# Altium integrated library Hitachi Microprocessor 16-Bit.IntLib: 58 symbols (part 3 of 4)
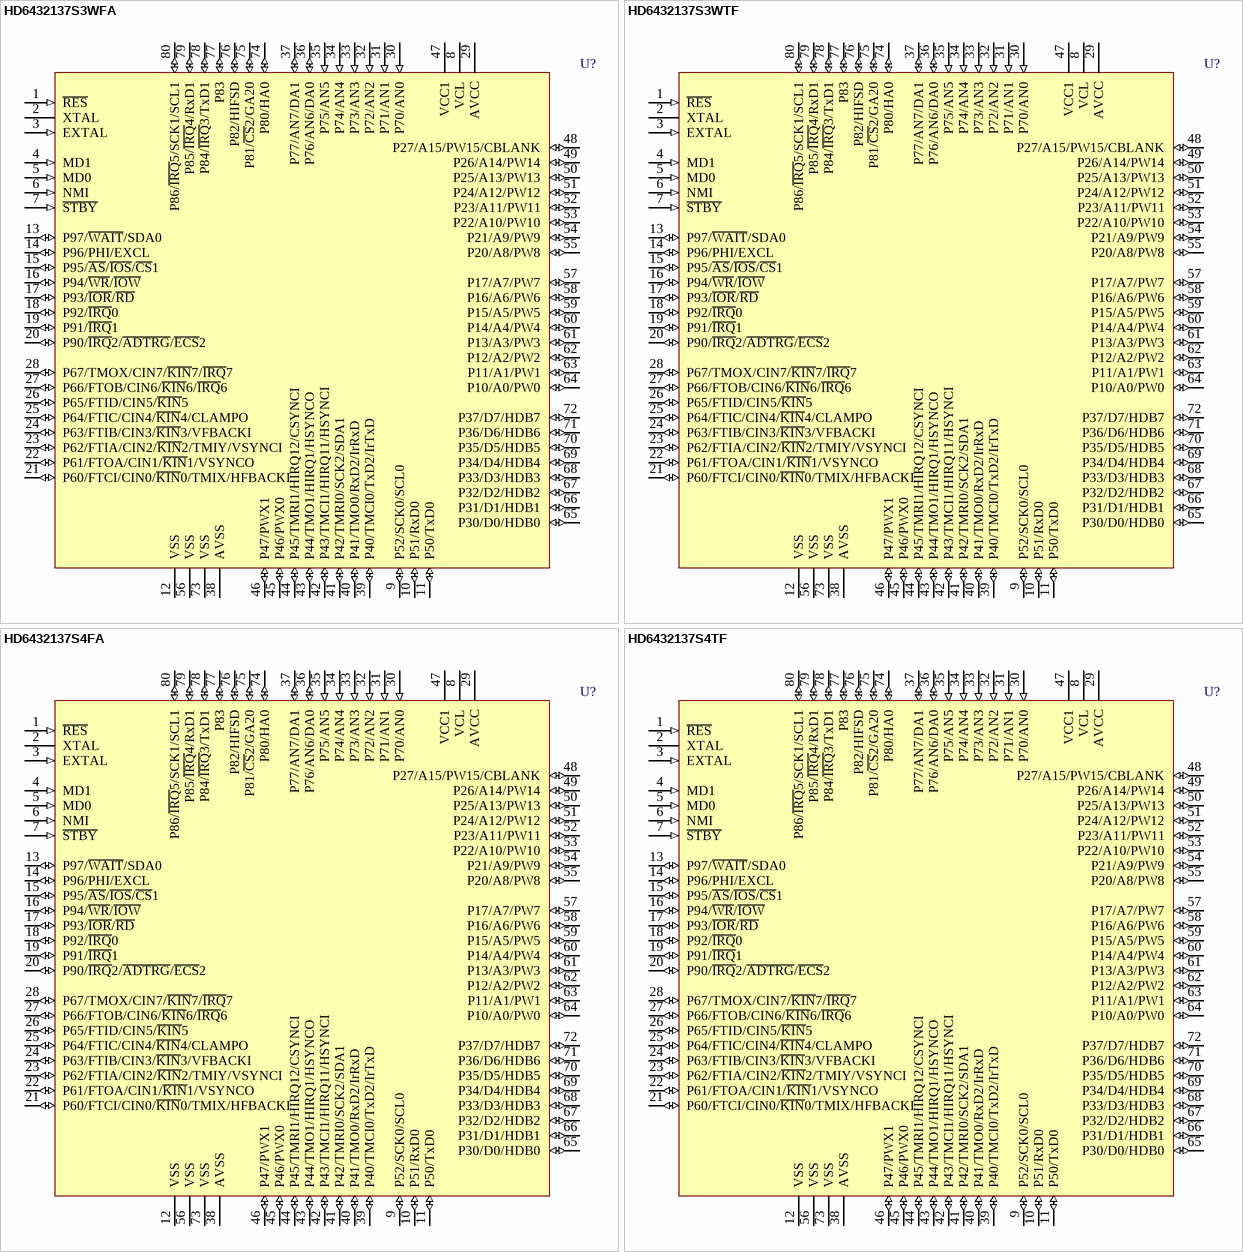
[diagram p16: symbols HD6432137S3WFA to HD6432137S4TF]

## HD6432137S3WFA
designator U?
16-Bit Single-Chip Microcomputer, H8S/2137, Mask ROM, with on-chip IIC Bus Interface (3V Version).; Note: Do not leave the AVCC, and AVSS pins open even if the A/D converter and D/A converter are not used.; Published: 17-Jul-2002; LatestRevisionDate: 13-Apr-2006; LatestRevisionNote: IPC-7351 Footprint Added.; DatasheetVersion: May-2001; PackageVersion: May-2001; PackageReference: FP-80A; Publisher: Altium Limited; PackageDescription: 80-Pin Quad Flat Pack 0.65 mm Pitch; Code_IPC: QFP65P1720X1720-80; ComponentLink1Description: Manufacturer Link; ComponentLink1URL: http://www.renesas.com/eng/; ComponentLink2Description: Datasheet; ComponentLink2URL: http://documentation.renesas.com/eng/products/mpumcu/e602144_h8s2138.pdf
footprint FP-80A_N (QFP, 80-Leads, Body 14 x 14mm, Pitch 0.65mm, IPC Medium Density)
footprint FP-80A_L (QFP, 80-Leads, Body 14 x 14mm, Pitch 0.65mm, IPC High Density)
footprint FP-80A_M (QFP, 80-Leads, Body 14 x 14mm, Pitch 0.65mm, IPC Low Density)
3D model HD6432137SW-FP-80A (80-Pin Quad Flat Pack 0.65 mm Pitch)
pins: 1 ~{RES} (in), 2 XTAL, 3 EXTAL (in), 4 MD1 (in), 5 MD0 (in), 6 NMI (in), 7 ~{STBY} (in), 8 VCL (power), 9 P52/SCK0/SCL0 (io), 10 P51/RxD0 (io), 11 P50/TxD0 (io), 12 VSS (power), 13 P97/~{WAIT}/SDA0 (io), 14 P96/PHI/EXCL (io), 15 P95/~{AS}/~{IOS}/~{CS}1 (io), 16 P94/~{WR}/~{IOW} (io), 17 P93/~{IOR}/~{RD} (io), 18 P92/~{IRQ}0 (io), 19 P91/~{IRQ}1 (io), 20 P90/~{IRQ}2/~{ADTRG}/~{ECS}2 (io), 21 P60/FTCI/CIN0/~{KIN}0/TMIX/HFBACKI (io), 22 P61/FTOA/CIN1/~{KIN}1/VSYNCO (io), 23 P62/FTIA/CIN2/~{KIN}2/TMIY/VSYNCI (io), 24 P63/FTIB/CIN3/~{KIN}3/VFBACKI (io), 25 P64/FTIC/CIN4/~{KIN}4/CLAMPO (io), 26 P65/FTID/CIN5/~{KIN}5 (io), 27 P66/FTOB/CIN6/~{KIN}6/~{IRQ}6 (io), 28 P67/TMOX/CIN7/~{KIN}7/~{IRQ}7 (io), 29 AVCC (power), 30 P70/AN0 (in), 31 P71/AN1 (in), 32 P72/AN2 (in), 33 P73/AN3 (in), 34 P74/AN4 (in), 35 P75/AN5 (in), 36 P76/AN6/DA0 (io), 37 P77/AN7/DA1 (io), 38 AVSS (power), 39 P40/TMCI0/TxD2/IrTxD (io), 40 P41/TMO0/RxD2/IrRxD (io), 41 P42/TMRI0/SCK2/SDA1 (io), 42 P43/TMCI1/HIRQ11/HSYNCI (io), 43 P44/TMO1/HIRQ1/HSYNCO (io), 44 P45/TMRI1/HIRQ12/CSYNCI (io), 45 P46/PWX0 (io), 46 P47/PWX1 (io), 47 VCC1 (power), 48 P27/A15/PW15/CBLANK (io), 49 P26/A14/PW14 (io), 50 P25/A13/PW13 (io), 51 P24/A12/PW12 (io), 52 P23/A11/PW11 (io), 53 P22/A10/PW10 (io), 54 P21/A9/PW9 (io), 55 P20/A8/PW8 (io), 56 VSS (power), 57 P17/A7/PW7 (io), 58 P16/A6/PW6 (io), 59 P15/A5/PW5 (io), 60 P14/A4/PW4 (io), 61 P13/A3/PW3 (io), 62 P12/A2/PW2 (io), 63 P11/A1/PW1 (io), 64 P10/A0/PW0 (io), 65 P30/D0/HDB0 (io), 66 P31/D1/HDB1 (io), 67 P32/D2/HDB2 (io), 68 P33/D3/HDB3 (io), 69 P34/D4/HDB4 (io), 70 P35/D5/HDB5 (io), 71 P36/D6/HDB6 (io), 72 P37/D7/HDB7 (io), 73 VSS (power), 74 P80/HA0 (io), 75 P81/~{CS}2/GA20 (io), 76 P82/HIFSD (io), 77 P83 (io), 78 P84/~{IRQ}3/TxD1 (io), 79 P85/~{IRQ}4/RxD1 (io), 80 P86/~{IRQ}5/SCK1/SCL1 (io)

## HD6432137S3WTF
designator U?
16-Bit Single-Chip Microcomputer, H8S/2137, Mask ROM, with on-chip IIC Bus Interface (3V Version).; Note: Do not leave the AVCC, and AVSS pins open even if the A/D converter and D/A converter are not used.; Published: 17-Jul-2002; LatestRevisionDate: 13-Apr-2006; LatestRevisionNote: IPC-7351 Footprint Added.; DatasheetVersion: May-2001; PackageVersion: May-2001; PackageReference: TFP-80C; Publisher: Altium Limited; PackageDescription: 80-Pin Thin Quad Flat Pack 0.5 mm Pitch; ComponentLink1Description: Manufacturer Link; ComponentLink1URL: http://www.renesas.com/eng/; ComponentLink2Description: Datasheet; ComponentLink2URL: http://documentation.renesas.com/eng/products/mpumcu/e602144_h8s2138.pdf
footprint TFP-80C_N (Thin QFP, 80-Leads, Body 12x12mm, Pitch 0.5mm, IPC Medium Density)
footprint TFP-80C_L (Thin QFP, 80-Leads, Body 12x12mm, Pitch 0.5mm, IPC High Density)
footprint TFP-80C_M (Thin QFP, 80-Leads, Body 12x12mm, Pitch 0.5mm, IPC Low Density)
3D model HD6432137SW-TFP-80C (80-Pin Thin Quad Flat Pack 0.5 mm Pitch)
pins: 1 ~{RES} (in), 2 XTAL, 3 EXTAL (in), 4 MD1 (in), 5 MD0 (in), 6 NMI (in), 7 ~{STBY} (in), 8 VCL (power), 9 P52/SCK0/SCL0 (io), 10 P51/RxD0 (io), 11 P50/TxD0 (io), 12 VSS (power), 13 P97/~{WAIT}/SDA0 (io), 14 P96/PHI/EXCL (io), 15 P95/~{AS}/~{IOS}/~{CS}1 (io), 16 P94/~{WR}/~{IOW} (io), 17 P93/~{IOR}/~{RD} (io), 18 P92/~{IRQ}0 (io), 19 P91/~{IRQ}1 (io), 20 P90/~{IRQ}2/~{ADTRG}/~{ECS}2 (io), 21 P60/FTCI/CIN0/~{KIN}0/TMIX/HFBACKI (io), 22 P61/FTOA/CIN1/~{KIN}1/VSYNCO (io), 23 P62/FTIA/CIN2/~{KIN}2/TMIY/VSYNCI (io), 24 P63/FTIB/CIN3/~{KIN}3/VFBACKI (io), 25 P64/FTIC/CIN4/~{KIN}4/CLAMPO (io), 26 P65/FTID/CIN5/~{KIN}5 (io), 27 P66/FTOB/CIN6/~{KIN}6/~{IRQ}6 (io), 28 P67/TMOX/CIN7/~{KIN}7/~{IRQ}7 (io), 29 AVCC (power), 30 P70/AN0 (in), 31 P71/AN1 (in), 32 P72/AN2 (in), 33 P73/AN3 (in), 34 P74/AN4 (in), 35 P75/AN5 (in), 36 P76/AN6/DA0 (io), 37 P77/AN7/DA1 (io), 38 AVSS (power), 39 P40/TMCI0/TxD2/IrTxD (io), 40 P41/TMO0/RxD2/IrRxD (io), 41 P42/TMRI0/SCK2/SDA1 (io), 42 P43/TMCI1/HIRQ11/HSYNCI (io), 43 P44/TMO1/HIRQ1/HSYNCO (io), 44 P45/TMRI1/HIRQ12/CSYNCI (io), 45 P46/PWX0 (io), 46 P47/PWX1 (io), 47 VCC1 (power), 48 P27/A15/PW15/CBLANK (io), 49 P26/A14/PW14 (io), 50 P25/A13/PW13 (io), 51 P24/A12/PW12 (io), 52 P23/A11/PW11 (io), 53 P22/A10/PW10 (io), 54 P21/A9/PW9 (io), 55 P20/A8/PW8 (io), 56 VSS (power), 57 P17/A7/PW7 (io), 58 P16/A6/PW6 (io), 59 P15/A5/PW5 (io), 60 P14/A4/PW4 (io), 61 P13/A3/PW3 (io), 62 P12/A2/PW2 (io), 63 P11/A1/PW1 (io), 64 P10/A0/PW0 (io), 65 P30/D0/HDB0 (io), 66 P31/D1/HDB1 (io), 67 P32/D2/HDB2 (io), 68 P33/D3/HDB3 (io), 69 P34/D4/HDB4 (io), 70 P35/D5/HDB5 (io), 71 P36/D6/HDB6 (io), 72 P37/D7/HDB7 (io), 73 VSS (power), 74 P80/HA0 (io), 75 P81/~{CS}2/GA20 (io), 76 P82/HIFSD (io), 77 P83 (io), 78 P84/~{IRQ}3/TxD1 (io), 79 P85/~{IRQ}4/RxD1 (io), 80 P86/~{IRQ}5/SCK1/SCL1 (io)

## HD6432137S4FA
designator U?
16-Bit Single-Chip Microcomputer, H8S/2137, Mask ROM, Standard Product (4V Version).; Note: Do not leave the AVCC, and AVSS pins open even if the A/D converter and D/A converter are not used.; Note: Never apply power supply voltage to the VCL pin in the 5-V or 4-V version.; Published: 17-Jul-2002; LatestRevisionDate: 13-Apr-2006; LatestRevisionNote: IPC-7351 Footprint Added.; DatasheetVersion: May-2001; PackageVersion: May-2001; PackageReference: FP-80A; Publisher: Altium Limited; PackageDescription: 80-Pin Quad Flat Pack 0.65 mm Pitch; Code_IPC: QFP65P1720X1720-80; ComponentLink1Description: Manufacturer Link; ComponentLink1URL: http://www.renesas.com/eng/; ComponentLink2Description: Datasheet; ComponentLink2URL: http://documentation.renesas.com/eng/products/mpumcu/e602144_h8s2138.pdf
footprint FP-80A_N (QFP, 80-Leads, Body 14 x 14mm, Pitch 0.65mm, IPC Medium Density)
footprint FP-80A_L (QFP, 80-Leads, Body 14 x 14mm, Pitch 0.65mm, IPC High Density)
footprint FP-80A_M (QFP, 80-Leads, Body 14 x 14mm, Pitch 0.65mm, IPC Low Density)
3D model HD6432137S-FP-80A (80-Pin Quad Flat Pack 0.65 mm Pitch)
pins: 1 ~{RES} (in), 2 XTAL, 3 EXTAL (in), 4 MD1 (in), 5 MD0 (in), 6 NMI (in), 7 ~{STBY} (in), 8 VCL (power), 9 P52/SCK0/SCL0 (io), 10 P51/RxD0 (io), 11 P50/TxD0 (io), 12 VSS (power), 13 P97/~{WAIT}/SDA0 (io), 14 P96/PHI/EXCL (io), 15 P95/~{AS}/~{IOS}/~{CS}1 (io), 16 P94/~{WR}/~{IOW} (io), 17 P93/~{IOR}/~{RD} (io), 18 P92/~{IRQ}0 (io), 19 P91/~{IRQ}1 (io), 20 P90/~{IRQ}2/~{ADTRG}/~{ECS}2 (io), 21 P60/FTCI/CIN0/~{KIN}0/TMIX/HFBACKI (io), 22 P61/FTOA/CIN1/~{KIN}1/VSYNCO (io), 23 P62/FTIA/CIN2/~{KIN}2/TMIY/VSYNCI (io), 24 P63/FTIB/CIN3/~{KIN}3/VFBACKI (io), 25 P64/FTIC/CIN4/~{KIN}4/CLAMPO (io), 26 P65/FTID/CIN5/~{KIN}5 (io), 27 P66/FTOB/CIN6/~{KIN}6/~{IRQ}6 (io), 28 P67/TMOX/CIN7/~{KIN}7/~{IRQ}7 (io), 29 AVCC (power), 30 P70/AN0 (in), 31 P71/AN1 (in), 32 P72/AN2 (in), 33 P73/AN3 (in), 34 P74/AN4 (in), 35 P75/AN5 (in), 36 P76/AN6/DA0 (io), 37 P77/AN7/DA1 (io), 38 AVSS (power), 39 P40/TMCI0/TxD2/IrTxD (io), 40 P41/TMO0/RxD2/IrRxD (io), 41 P42/TMRI0/SCK2/SDA1 (io), 42 P43/TMCI1/HIRQ11/HSYNCI (io), 43 P44/TMO1/HIRQ1/HSYNCO (io), 44 P45/TMRI1/HIRQ12/CSYNCI (io), 45 P46/PWX0 (io), 46 P47/PWX1 (io), 47 VCC1 (power), 48 P27/A15/PW15/CBLANK (io), 49 P26/A14/PW14 (io), 50 P25/A13/PW13 (io), 51 P24/A12/PW12 (io), 52 P23/A11/PW11 (io), 53 P22/A10/PW10 (io), 54 P21/A9/PW9 (io), 55 P20/A8/PW8 (io), 56 VSS (power), 57 P17/A7/PW7 (io), 58 P16/A6/PW6 (io), 59 P15/A5/PW5 (io), 60 P14/A4/PW4 (io), 61 P13/A3/PW3 (io), 62 P12/A2/PW2 (io), 63 P11/A1/PW1 (io), 64 P10/A0/PW0 (io), 65 P30/D0/HDB0 (io), 66 P31/D1/HDB1 (io), 67 P32/D2/HDB2 (io), 68 P33/D3/HDB3 (io), 69 P34/D4/HDB4 (io), 70 P35/D5/HDB5 (io), 71 P36/D6/HDB6 (io), 72 P37/D7/HDB7 (io), 73 VSS (power), 74 P80/HA0 (io), 75 P81/~{CS}2/GA20 (io), 76 P82/HIFSD (io), 77 P83 (io), 78 P84/~{IRQ}3/TxD1 (io), 79 P85/~{IRQ}4/RxD1 (io), 80 P86/~{IRQ}5/SCK1/SCL1 (io)

## HD6432137S4TF
designator U?
16-Bit Single-Chip Microcomputer, H8S/2137, Mask ROM, Standard Product (4V Version).; Note: Do not leave the AVCC, and AVSS pins open even if the A/D converter and D/A converter are not used.; Note: Never apply power supply voltage to the VCL pin in the 5-V or 4-V version.; Published: 17-Jul-2002; LatestRevisionDate: 13-Apr-2006; LatestRevisionNote: IPC-7351 Footprint Added.; DatasheetVersion: May-2001; PackageVersion: May-2001; PackageReference: TFP-80C; Publisher: Altium Limited; PackageDescription: 80-Pin Thin Quad Flat Pack 0.5 mm Pitch; ComponentLink1Description: Manufacturer Link; ComponentLink1URL: http://www.renesas.com/eng/; ComponentLink2Description: Datasheet; ComponentLink2URL: http://documentation.renesas.com/eng/products/mpumcu/e602144_h8s2138.pdf
footprint TFP-80C_N (Thin QFP, 80-Leads, Body 12x12mm, Pitch 0.5mm, IPC Medium Density)
footprint TFP-80C_L (Thin QFP, 80-Leads, Body 12x12mm, Pitch 0.5mm, IPC High Density)
footprint TFP-80C_M (Thin QFP, 80-Leads, Body 12x12mm, Pitch 0.5mm, IPC Low Density)
3D model HD6432137S-TFP-80C (80-Pin Thin Quad Flat Pack 0.5 mm Pitch)
pins: 1 ~{RES} (in), 2 XTAL, 3 EXTAL (in), 4 MD1 (in), 5 MD0 (in), 6 NMI (in), 7 ~{STBY} (in), 8 VCL (power), 9 P52/SCK0/SCL0 (io), 10 P51/RxD0 (io), 11 P50/TxD0 (io), 12 VSS (power), 13 P97/~{WAIT}/SDA0 (io), 14 P96/PHI/EXCL (io), 15 P95/~{AS}/~{IOS}/~{CS}1 (io), 16 P94/~{WR}/~{IOW} (io), 17 P93/~{IOR}/~{RD} (io), 18 P92/~{IRQ}0 (io), 19 P91/~{IRQ}1 (io), 20 P90/~{IRQ}2/~{ADTRG}/~{ECS}2 (io), 21 P60/FTCI/CIN0/~{KIN}0/TMIX/HFBACKI (io), 22 P61/FTOA/CIN1/~{KIN}1/VSYNCO (io), 23 P62/FTIA/CIN2/~{KIN}2/TMIY/VSYNCI (io), 24 P63/FTIB/CIN3/~{KIN}3/VFBACKI (io), 25 P64/FTIC/CIN4/~{KIN}4/CLAMPO (io), 26 P65/FTID/CIN5/~{KIN}5 (io), 27 P66/FTOB/CIN6/~{KIN}6/~{IRQ}6 (io), 28 P67/TMOX/CIN7/~{KIN}7/~{IRQ}7 (io), 29 AVCC (power), 30 P70/AN0 (in), 31 P71/AN1 (in), 32 P72/AN2 (in), 33 P73/AN3 (in), 34 P74/AN4 (in), 35 P75/AN5 (in), 36 P76/AN6/DA0 (io), 37 P77/AN7/DA1 (io), 38 AVSS (power), 39 P40/TMCI0/TxD2/IrTxD (io), 40 P41/TMO0/RxD2/IrRxD (io), 41 P42/TMRI0/SCK2/SDA1 (io), 42 P43/TMCI1/HIRQ11/HSYNCI (io), 43 P44/TMO1/HIRQ1/HSYNCO (io), 44 P45/TMRI1/HIRQ12/CSYNCI (io), 45 P46/PWX0 (io), 46 P47/PWX1 (io), 47 VCC1 (power), 48 P27/A15/PW15/CBLANK (io), 49 P26/A14/PW14 (io), 50 P25/A13/PW13 (io), 51 P24/A12/PW12 (io), 52 P23/A11/PW11 (io), 53 P22/A10/PW10 (io), 54 P21/A9/PW9 (io), 55 P20/A8/PW8 (io), 56 VSS (power), 57 P17/A7/PW7 (io), 58 P16/A6/PW6 (io), 59 P15/A5/PW5 (io), 60 P14/A4/PW4 (io), 61 P13/A3/PW3 (io), 62 P12/A2/PW2 (io), 63 P11/A1/PW1 (io), 64 P10/A0/PW0 (io), 65 P30/D0/HDB0 (io), 66 P31/D1/HDB1 (io), 67 P32/D2/HDB2 (io), 68 P33/D3/HDB3 (io), 69 P34/D4/HDB4 (io), 70 P35/D5/HDB5 (io), 71 P36/D6/HDB6 (io), 72 P37/D7/HDB7 (io), 73 VSS (power), 74 P80/HA0 (io), 75 P81/~{CS}2/GA20 (io), 76 P82/HIFSD (io), 77 P83 (io), 78 P84/~{IRQ}3/TxD1 (io), 79 P85/~{IRQ}4/RxD1 (io), 80 P86/~{IRQ}5/SCK1/SCL1 (io)

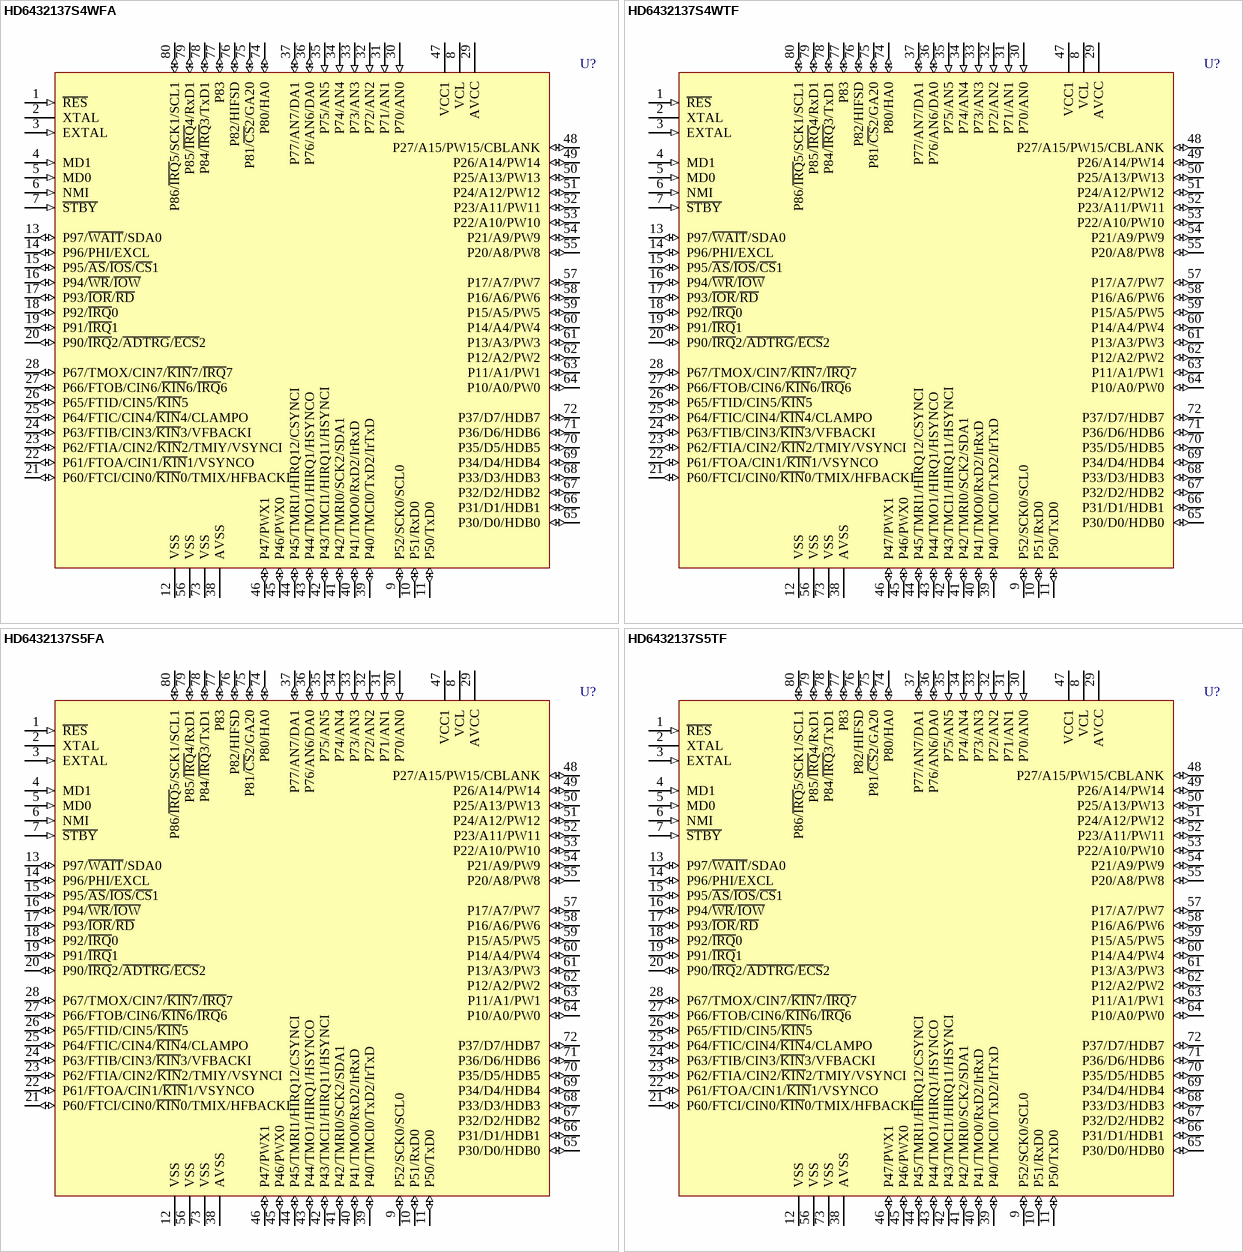
[diagram p10: symbols HD6432137S4WFA to HD6432137S5TF]

## HD6432137S4WFA
designator U?
16-Bit Single-Chip Microcomputer, H8S/2137, Mask ROM, with on-chip IIC Bus Interface (4V Version).; Note: Do not leave the AVCC, and AVSS pins open even if the A/D converter and D/A converter are not used.; Note: Never apply power supply voltage to the VCL pin in the 5-V or 4-V version.; Published: 17-Jul-2002; LatestRevisionDate: 13-Apr-2006; LatestRevisionNote: IPC-7351 Footprint Added.; DatasheetVersion: May-2001; PackageVersion: May-2001; PackageReference: FP-80A; Publisher: Altium Limited; PackageDescription: 80-Pin Quad Flat Pack 0.65 mm Pitch; Code_IPC: QFP65P1720X1720-80; ComponentLink1Description: Manufacturer Link; ComponentLink1URL: http://www.renesas.com/eng/; ComponentLink2Description: Datasheet; ComponentLink2URL: http://documentation.renesas.com/eng/products/mpumcu/e602144_h8s2138.pdf
footprint FP-80A_N (QFP, 80-Leads, Body 14 x 14mm, Pitch 0.65mm, IPC Medium Density)
footprint FP-80A_L (QFP, 80-Leads, Body 14 x 14mm, Pitch 0.65mm, IPC High Density)
footprint FP-80A_M (QFP, 80-Leads, Body 14 x 14mm, Pitch 0.65mm, IPC Low Density)
3D model HD6432137SW-FP-80A (80-Pin Quad Flat Pack 0.65 mm Pitch)
pins: 1 ~{RES} (in), 2 XTAL, 3 EXTAL (in), 4 MD1 (in), 5 MD0 (in), 6 NMI (in), 7 ~{STBY} (in), 8 VCL (power), 9 P52/SCK0/SCL0 (io), 10 P51/RxD0 (io), 11 P50/TxD0 (io), 12 VSS (power), 13 P97/~{WAIT}/SDA0 (io), 14 P96/PHI/EXCL (io), 15 P95/~{AS}/~{IOS}/~{CS}1 (io), 16 P94/~{WR}/~{IOW} (io), 17 P93/~{IOR}/~{RD} (io), 18 P92/~{IRQ}0 (io), 19 P91/~{IRQ}1 (io), 20 P90/~{IRQ}2/~{ADTRG}/~{ECS}2 (io), 21 P60/FTCI/CIN0/~{KIN}0/TMIX/HFBACKI (io), 22 P61/FTOA/CIN1/~{KIN}1/VSYNCO (io), 23 P62/FTIA/CIN2/~{KIN}2/TMIY/VSYNCI (io), 24 P63/FTIB/CIN3/~{KIN}3/VFBACKI (io), 25 P64/FTIC/CIN4/~{KIN}4/CLAMPO (io), 26 P65/FTID/CIN5/~{KIN}5 (io), 27 P66/FTOB/CIN6/~{KIN}6/~{IRQ}6 (io), 28 P67/TMOX/CIN7/~{KIN}7/~{IRQ}7 (io), 29 AVCC (power), 30 P70/AN0 (in), 31 P71/AN1 (in), 32 P72/AN2 (in), 33 P73/AN3 (in), 34 P74/AN4 (in), 35 P75/AN5 (in), 36 P76/AN6/DA0 (io), 37 P77/AN7/DA1 (io), 38 AVSS (power), 39 P40/TMCI0/TxD2/IrTxD (io), 40 P41/TMO0/RxD2/IrRxD (io), 41 P42/TMRI0/SCK2/SDA1 (io), 42 P43/TMCI1/HIRQ11/HSYNCI (io), 43 P44/TMO1/HIRQ1/HSYNCO (io), 44 P45/TMRI1/HIRQ12/CSYNCI (io), 45 P46/PWX0 (io), 46 P47/PWX1 (io), 47 VCC1 (power), 48 P27/A15/PW15/CBLANK (io), 49 P26/A14/PW14 (io), 50 P25/A13/PW13 (io), 51 P24/A12/PW12 (io), 52 P23/A11/PW11 (io), 53 P22/A10/PW10 (io), 54 P21/A9/PW9 (io), 55 P20/A8/PW8 (io), 56 VSS (power), 57 P17/A7/PW7 (io), 58 P16/A6/PW6 (io), 59 P15/A5/PW5 (io), 60 P14/A4/PW4 (io), 61 P13/A3/PW3 (io), 62 P12/A2/PW2 (io), 63 P11/A1/PW1 (io), 64 P10/A0/PW0 (io), 65 P30/D0/HDB0 (io), 66 P31/D1/HDB1 (io), 67 P32/D2/HDB2 (io), 68 P33/D3/HDB3 (io), 69 P34/D4/HDB4 (io), 70 P35/D5/HDB5 (io), 71 P36/D6/HDB6 (io), 72 P37/D7/HDB7 (io), 73 VSS (power), 74 P80/HA0 (io), 75 P81/~{CS}2/GA20 (io), 76 P82/HIFSD (io), 77 P83 (io), 78 P84/~{IRQ}3/TxD1 (io), 79 P85/~{IRQ}4/RxD1 (io), 80 P86/~{IRQ}5/SCK1/SCL1 (io)

## HD6432137S4WTF
designator U?
16-Bit Single-Chip Microcomputer, H8S/2137, Mask ROM, with on-chip IIC Bus Interface (4V Version).; Note: Do not leave the AVCC, and AVSS pins open even if the A/D converter and D/A converter are not used.; Note: Never apply power supply voltage to the VCL pin in the 5-V or 4-V version.; Published: 17-Jul-2002; LatestRevisionDate: 13-Apr-2006; LatestRevisionNote: IPC-7351 Footprint Added.; DatasheetVersion: May-2001; PackageVersion: May-2001; PackageReference: TFP-80C; Publisher: Altium Limited; PackageDescription: 80-Pin Thin Quad Flat Pack 0.5 mm Pitch; ComponentLink1Description: Manufacturer Link; ComponentLink1URL: http://www.renesas.com/eng/; ComponentLink2Description: Datasheet; ComponentLink2URL: http://documentation.renesas.com/eng/products/mpumcu/e602144_h8s2138.pdf
footprint TFP-80C_N (Thin QFP, 80-Leads, Body 12x12mm, Pitch 0.5mm, IPC Medium Density)
footprint TFP-80C_L (Thin QFP, 80-Leads, Body 12x12mm, Pitch 0.5mm, IPC High Density)
footprint TFP-80C_M (Thin QFP, 80-Leads, Body 12x12mm, Pitch 0.5mm, IPC Low Density)
3D model HD6432137SW-TFP-80C (80-Pin Thin Quad Flat Pack 0.5 mm Pitch)
pins: 1 ~{RES} (in), 2 XTAL, 3 EXTAL (in), 4 MD1 (in), 5 MD0 (in), 6 NMI (in), 7 ~{STBY} (in), 8 VCL (power), 9 P52/SCK0/SCL0 (io), 10 P51/RxD0 (io), 11 P50/TxD0 (io), 12 VSS (power), 13 P97/~{WAIT}/SDA0 (io), 14 P96/PHI/EXCL (io), 15 P95/~{AS}/~{IOS}/~{CS}1 (io), 16 P94/~{WR}/~{IOW} (io), 17 P93/~{IOR}/~{RD} (io), 18 P92/~{IRQ}0 (io), 19 P91/~{IRQ}1 (io), 20 P90/~{IRQ}2/~{ADTRG}/~{ECS}2 (io), 21 P60/FTCI/CIN0/~{KIN}0/TMIX/HFBACKI (io), 22 P61/FTOA/CIN1/~{KIN}1/VSYNCO (io), 23 P62/FTIA/CIN2/~{KIN}2/TMIY/VSYNCI (io), 24 P63/FTIB/CIN3/~{KIN}3/VFBACKI (io), 25 P64/FTIC/CIN4/~{KIN}4/CLAMPO (io), 26 P65/FTID/CIN5/~{KIN}5 (io), 27 P66/FTOB/CIN6/~{KIN}6/~{IRQ}6 (io), 28 P67/TMOX/CIN7/~{KIN}7/~{IRQ}7 (io), 29 AVCC (power), 30 P70/AN0 (in), 31 P71/AN1 (in), 32 P72/AN2 (in), 33 P73/AN3 (in), 34 P74/AN4 (in), 35 P75/AN5 (in), 36 P76/AN6/DA0 (io), 37 P77/AN7/DA1 (io), 38 AVSS (power), 39 P40/TMCI0/TxD2/IrTxD (io), 40 P41/TMO0/RxD2/IrRxD (io), 41 P42/TMRI0/SCK2/SDA1 (io), 42 P43/TMCI1/HIRQ11/HSYNCI (io), 43 P44/TMO1/HIRQ1/HSYNCO (io), 44 P45/TMRI1/HIRQ12/CSYNCI (io), 45 P46/PWX0 (io), 46 P47/PWX1 (io), 47 VCC1 (power), 48 P27/A15/PW15/CBLANK (io), 49 P26/A14/PW14 (io), 50 P25/A13/PW13 (io), 51 P24/A12/PW12 (io), 52 P23/A11/PW11 (io), 53 P22/A10/PW10 (io), 54 P21/A9/PW9 (io), 55 P20/A8/PW8 (io), 56 VSS (power), 57 P17/A7/PW7 (io), 58 P16/A6/PW6 (io), 59 P15/A5/PW5 (io), 60 P14/A4/PW4 (io), 61 P13/A3/PW3 (io), 62 P12/A2/PW2 (io), 63 P11/A1/PW1 (io), 64 P10/A0/PW0 (io), 65 P30/D0/HDB0 (io), 66 P31/D1/HDB1 (io), 67 P32/D2/HDB2 (io), 68 P33/D3/HDB3 (io), 69 P34/D4/HDB4 (io), 70 P35/D5/HDB5 (io), 71 P36/D6/HDB6 (io), 72 P37/D7/HDB7 (io), 73 VSS (power), 74 P80/HA0 (io), 75 P81/~{CS}2/GA20 (io), 76 P82/HIFSD (io), 77 P83 (io), 78 P84/~{IRQ}3/TxD1 (io), 79 P85/~{IRQ}4/RxD1 (io), 80 P86/~{IRQ}5/SCK1/SCL1 (io)

## HD6432137S5FA
designator U?
16-Bit Single-Chip Microcomputer, H8S/2137, Mask ROM, Standard Product (5V Version).; Note: Do not leave the AVCC, and AVSS pins open even if the A/D converter and D/A converter are not used.; Note: Never apply power supply voltage to the VCL pin in the 5-V or 4-V version.; Published: 17-Jul-2002; LatestRevisionDate: 13-Apr-2006; LatestRevisionNote: IPC-7351 Footprint Added.; DatasheetVersion: May-2001; PackageVersion: May-2001; PackageReference: FP-80A; Publisher: Altium Limited; PackageDescription: 80-Pin Quad Flat Pack 0.65 mm Pitch; Code_IPC: QFP65P1720X1720-80; ComponentLink1Description: Manufacturer Link; ComponentLink1URL: http://www.renesas.com/eng/; ComponentLink2Description: Datasheet; ComponentLink2URL: http://documentation.renesas.com/eng/products/mpumcu/e602144_h8s2138.pdf
footprint FP-80A_N (QFP, 80-Leads, Body 14 x 14mm, Pitch 0.65mm, IPC Medium Density)
footprint FP-80A_L (QFP, 80-Leads, Body 14 x 14mm, Pitch 0.65mm, IPC High Density)
footprint FP-80A_M (QFP, 80-Leads, Body 14 x 14mm, Pitch 0.65mm, IPC Low Density)
3D model HD6432137S-FP-80A (80-Pin Quad Flat Pack 0.65 mm Pitch)
pins: 1 ~{RES} (in), 2 XTAL, 3 EXTAL (in), 4 MD1 (in), 5 MD0 (in), 6 NMI (in), 7 ~{STBY} (in), 8 VCL (power), 9 P52/SCK0/SCL0 (io), 10 P51/RxD0 (io), 11 P50/TxD0 (io), 12 VSS (power), 13 P97/~{WAIT}/SDA0 (io), 14 P96/PHI/EXCL (io), 15 P95/~{AS}/~{IOS}/~{CS}1 (io), 16 P94/~{WR}/~{IOW} (io), 17 P93/~{IOR}/~{RD} (io), 18 P92/~{IRQ}0 (io), 19 P91/~{IRQ}1 (io), 20 P90/~{IRQ}2/~{ADTRG}/~{ECS}2 (io), 21 P60/FTCI/CIN0/~{KIN}0/TMIX/HFBACKI (io), 22 P61/FTOA/CIN1/~{KIN}1/VSYNCO (io), 23 P62/FTIA/CIN2/~{KIN}2/TMIY/VSYNCI (io), 24 P63/FTIB/CIN3/~{KIN}3/VFBACKI (io), 25 P64/FTIC/CIN4/~{KIN}4/CLAMPO (io), 26 P65/FTID/CIN5/~{KIN}5 (io), 27 P66/FTOB/CIN6/~{KIN}6/~{IRQ}6 (io), 28 P67/TMOX/CIN7/~{KIN}7/~{IRQ}7 (io), 29 AVCC (power), 30 P70/AN0 (in), 31 P71/AN1 (in), 32 P72/AN2 (in), 33 P73/AN3 (in), 34 P74/AN4 (in), 35 P75/AN5 (in), 36 P76/AN6/DA0 (io), 37 P77/AN7/DA1 (io), 38 AVSS (power), 39 P40/TMCI0/TxD2/IrTxD (io), 40 P41/TMO0/RxD2/IrRxD (io), 41 P42/TMRI0/SCK2/SDA1 (io), 42 P43/TMCI1/HIRQ11/HSYNCI (io), 43 P44/TMO1/HIRQ1/HSYNCO (io), 44 P45/TMRI1/HIRQ12/CSYNCI (io), 45 P46/PWX0 (io), 46 P47/PWX1 (io), 47 VCC1 (power), 48 P27/A15/PW15/CBLANK (io), 49 P26/A14/PW14 (io), 50 P25/A13/PW13 (io), 51 P24/A12/PW12 (io), 52 P23/A11/PW11 (io), 53 P22/A10/PW10 (io), 54 P21/A9/PW9 (io), 55 P20/A8/PW8 (io), 56 VSS (power), 57 P17/A7/PW7 (io), 58 P16/A6/PW6 (io), 59 P15/A5/PW5 (io), 60 P14/A4/PW4 (io), 61 P13/A3/PW3 (io), 62 P12/A2/PW2 (io), 63 P11/A1/PW1 (io), 64 P10/A0/PW0 (io), 65 P30/D0/HDB0 (io), 66 P31/D1/HDB1 (io), 67 P32/D2/HDB2 (io), 68 P33/D3/HDB3 (io), 69 P34/D4/HDB4 (io), 70 P35/D5/HDB5 (io), 71 P36/D6/HDB6 (io), 72 P37/D7/HDB7 (io), 73 VSS (power), 74 P80/HA0 (io), 75 P81/~{CS}2/GA20 (io), 76 P82/HIFSD (io), 77 P83 (io), 78 P84/~{IRQ}3/TxD1 (io), 79 P85/~{IRQ}4/RxD1 (io), 80 P86/~{IRQ}5/SCK1/SCL1 (io)

## HD6432137S5TF
designator U?
16-Bit Single-Chip Microcomputer, H8S/2137, Mask ROM, Standard Product (5V Version).; Note: Do not leave the AVCC, and AVSS pins open even if the A/D converter and D/A converter are not used.; Note: Never apply power supply voltage to the VCL pin in the 5-V or 4-V version.; Published: 17-Jul-2002; LatestRevisionDate: 13-Apr-2006; LatestRevisionNote: IPC-7351 Footprint Added.; DatasheetVersion: May-2001; PackageVersion: May-2001; PackageReference: TFP-80C; Publisher: Altium Limited; PackageDescription: 80-Pin Thin Quad Flat Pack 0.5 mm Pitch; ComponentLink1Description: Manufacturer Link; ComponentLink1URL: http://www.renesas.com/eng/; ComponentLink2Description: Datasheet; ComponentLink2URL: http://documentation.renesas.com/eng/products/mpumcu/e602144_h8s2138.pdf
footprint TFP-80C_N (Thin QFP, 80-Leads, Body 12x12mm, Pitch 0.5mm, IPC Medium Density)
footprint TFP-80C_L (Thin QFP, 80-Leads, Body 12x12mm, Pitch 0.5mm, IPC High Density)
footprint TFP-80C_M (Thin QFP, 80-Leads, Body 12x12mm, Pitch 0.5mm, IPC Low Density)
3D model HD6432137S-TFP-80C (80-Pin Thin Quad Flat Pack 0.5 mm Pitch)
pins: 1 ~{RES} (in), 2 XTAL, 3 EXTAL (in), 4 MD1 (in), 5 MD0 (in), 6 NMI (in), 7 ~{STBY} (in), 8 VCL (power), 9 P52/SCK0/SCL0 (io), 10 P51/RxD0 (io), 11 P50/TxD0 (io), 12 VSS (power), 13 P97/~{WAIT}/SDA0 (io), 14 P96/PHI/EXCL (io), 15 P95/~{AS}/~{IOS}/~{CS}1 (io), 16 P94/~{WR}/~{IOW} (io), 17 P93/~{IOR}/~{RD} (io), 18 P92/~{IRQ}0 (io), 19 P91/~{IRQ}1 (io), 20 P90/~{IRQ}2/~{ADTRG}/~{ECS}2 (io), 21 P60/FTCI/CIN0/~{KIN}0/TMIX/HFBACKI (io), 22 P61/FTOA/CIN1/~{KIN}1/VSYNCO (io), 23 P62/FTIA/CIN2/~{KIN}2/TMIY/VSYNCI (io), 24 P63/FTIB/CIN3/~{KIN}3/VFBACKI (io), 25 P64/FTIC/CIN4/~{KIN}4/CLAMPO (io), 26 P65/FTID/CIN5/~{KIN}5 (io), 27 P66/FTOB/CIN6/~{KIN}6/~{IRQ}6 (io), 28 P67/TMOX/CIN7/~{KIN}7/~{IRQ}7 (io), 29 AVCC (power), 30 P70/AN0 (in), 31 P71/AN1 (in), 32 P72/AN2 (in), 33 P73/AN3 (in), 34 P74/AN4 (in), 35 P75/AN5 (in), 36 P76/AN6/DA0 (io), 37 P77/AN7/DA1 (io), 38 AVSS (power), 39 P40/TMCI0/TxD2/IrTxD (io), 40 P41/TMO0/RxD2/IrRxD (io), 41 P42/TMRI0/SCK2/SDA1 (io), 42 P43/TMCI1/HIRQ11/HSYNCI (io), 43 P44/TMO1/HIRQ1/HSYNCO (io), 44 P45/TMRI1/HIRQ12/CSYNCI (io), 45 P46/PWX0 (io), 46 P47/PWX1 (io), 47 VCC1 (power), 48 P27/A15/PW15/CBLANK (io), 49 P26/A14/PW14 (io), 50 P25/A13/PW13 (io), 51 P24/A12/PW12 (io), 52 P23/A11/PW11 (io), 53 P22/A10/PW10 (io), 54 P21/A9/PW9 (io), 55 P20/A8/PW8 (io), 56 VSS (power), 57 P17/A7/PW7 (io), 58 P16/A6/PW6 (io), 59 P15/A5/PW5 (io), 60 P14/A4/PW4 (io), 61 P13/A3/PW3 (io), 62 P12/A2/PW2 (io), 63 P11/A1/PW1 (io), 64 P10/A0/PW0 (io), 65 P30/D0/HDB0 (io), 66 P31/D1/HDB1 (io), 67 P32/D2/HDB2 (io), 68 P33/D3/HDB3 (io), 69 P34/D4/HDB4 (io), 70 P35/D5/HDB5 (io), 71 P36/D6/HDB6 (io), 72 P37/D7/HDB7 (io), 73 VSS (power), 74 P80/HA0 (io), 75 P81/~{CS}2/GA20 (io), 76 P82/HIFSD (io), 77 P83 (io), 78 P84/~{IRQ}3/TxD1 (io), 79 P85/~{IRQ}4/RxD1 (io), 80 P86/~{IRQ}5/SCK1/SCL1 (io)

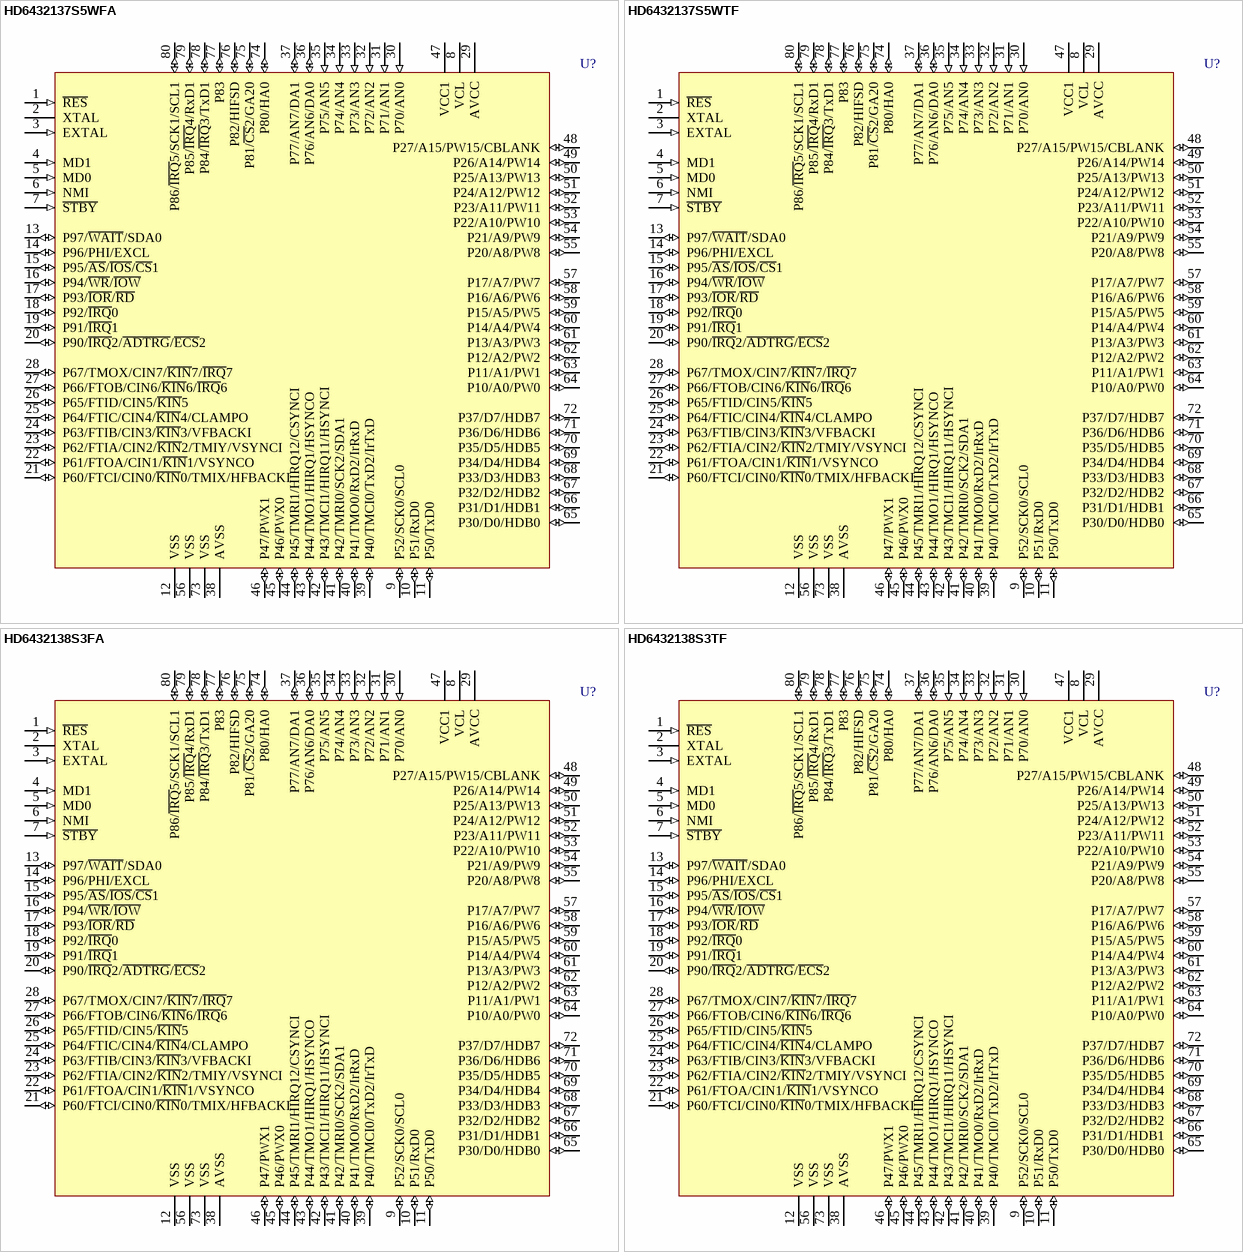
[diagram p11: symbols HD6432137S5WFA to HD6432138S3TF]

## HD6432137S5WFA
designator U?
16-Bit Single-Chip Microcomputer, H8S/2137, Mask ROM, with on-chip IIC Bus Interface (5V Version).; Note: Do not leave the AVCC, and AVSS pins open even if the A/D converter and D/A converter are not used.; Note: Never apply power supply voltage to the VCL pin in the 5-V or 4-V version.; Published: 17-Jul-2002; LatestRevisionDate: 13-Apr-2006; LatestRevisionNote: IPC-7351 Footprint Added.; DatasheetVersion: May-2001; PackageVersion: May-2001; PackageReference: FP-80A; Publisher: Altium Limited; PackageDescription: 80-Pin Quad Flat Pack 0.65 mm Pitch; Code_IPC: QFP65P1720X1720-80; ComponentLink1Description: Manufacturer Link; ComponentLink1URL: http://www.renesas.com/eng/; ComponentLink2Description: Datasheet; ComponentLink2URL: http://documentation.renesas.com/eng/products/mpumcu/e602144_h8s2138.pdf
footprint FP-80A_N (QFP, 80-Leads, Body 14 x 14mm, Pitch 0.65mm, IPC Medium Density)
footprint FP-80A_L (QFP, 80-Leads, Body 14 x 14mm, Pitch 0.65mm, IPC High Density)
footprint FP-80A_M (QFP, 80-Leads, Body 14 x 14mm, Pitch 0.65mm, IPC Low Density)
3D model HD6432137SW-FP-80A (80-Pin Quad Flat Pack 0.65 mm Pitch)
pins: 1 ~{RES} (in), 2 XTAL, 3 EXTAL (in), 4 MD1 (in), 5 MD0 (in), 6 NMI (in), 7 ~{STBY} (in), 8 VCL (power), 9 P52/SCK0/SCL0 (io), 10 P51/RxD0 (io), 11 P50/TxD0 (io), 12 VSS (power), 13 P97/~{WAIT}/SDA0 (io), 14 P96/PHI/EXCL (io), 15 P95/~{AS}/~{IOS}/~{CS}1 (io), 16 P94/~{WR}/~{IOW} (io), 17 P93/~{IOR}/~{RD} (io), 18 P92/~{IRQ}0 (io), 19 P91/~{IRQ}1 (io), 20 P90/~{IRQ}2/~{ADTRG}/~{ECS}2 (io), 21 P60/FTCI/CIN0/~{KIN}0/TMIX/HFBACKI (io), 22 P61/FTOA/CIN1/~{KIN}1/VSYNCO (io), 23 P62/FTIA/CIN2/~{KIN}2/TMIY/VSYNCI (io), 24 P63/FTIB/CIN3/~{KIN}3/VFBACKI (io), 25 P64/FTIC/CIN4/~{KIN}4/CLAMPO (io), 26 P65/FTID/CIN5/~{KIN}5 (io), 27 P66/FTOB/CIN6/~{KIN}6/~{IRQ}6 (io), 28 P67/TMOX/CIN7/~{KIN}7/~{IRQ}7 (io), 29 AVCC (power), 30 P70/AN0 (in), 31 P71/AN1 (in), 32 P72/AN2 (in), 33 P73/AN3 (in), 34 P74/AN4 (in), 35 P75/AN5 (in), 36 P76/AN6/DA0 (io), 37 P77/AN7/DA1 (io), 38 AVSS (power), 39 P40/TMCI0/TxD2/IrTxD (io), 40 P41/TMO0/RxD2/IrRxD (io), 41 P42/TMRI0/SCK2/SDA1 (io), 42 P43/TMCI1/HIRQ11/HSYNCI (io), 43 P44/TMO1/HIRQ1/HSYNCO (io), 44 P45/TMRI1/HIRQ12/CSYNCI (io), 45 P46/PWX0 (io), 46 P47/PWX1 (io), 47 VCC1 (power), 48 P27/A15/PW15/CBLANK (io), 49 P26/A14/PW14 (io), 50 P25/A13/PW13 (io), 51 P24/A12/PW12 (io), 52 P23/A11/PW11 (io), 53 P22/A10/PW10 (io), 54 P21/A9/PW9 (io), 55 P20/A8/PW8 (io), 56 VSS (power), 57 P17/A7/PW7 (io), 58 P16/A6/PW6 (io), 59 P15/A5/PW5 (io), 60 P14/A4/PW4 (io), 61 P13/A3/PW3 (io), 62 P12/A2/PW2 (io), 63 P11/A1/PW1 (io), 64 P10/A0/PW0 (io), 65 P30/D0/HDB0 (io), 66 P31/D1/HDB1 (io), 67 P32/D2/HDB2 (io), 68 P33/D3/HDB3 (io), 69 P34/D4/HDB4 (io), 70 P35/D5/HDB5 (io), 71 P36/D6/HDB6 (io), 72 P37/D7/HDB7 (io), 73 VSS (power), 74 P80/HA0 (io), 75 P81/~{CS}2/GA20 (io), 76 P82/HIFSD (io), 77 P83 (io), 78 P84/~{IRQ}3/TxD1 (io), 79 P85/~{IRQ}4/RxD1 (io), 80 P86/~{IRQ}5/SCK1/SCL1 (io)

## HD6432137S5WTF
designator U?
16-Bit Single-Chip Microcomputer, H8S/2137, Mask ROM, with on-chip IIC Bus Interface (5V Version).; Note: Do not leave the AVCC, and AVSS pins open even if the A/D converter and D/A converter are not used.; Note: Never apply power supply voltage to the VCL pin in the 5-V or 4-V version.; Published: 17-Jul-2002; LatestRevisionDate: 13-Apr-2006; LatestRevisionNote: IPC-7351 Footprint Added.; DatasheetVersion: May-2001; PackageVersion: May-2001; PackageReference: TFP-80C; Publisher: Altium Limited; PackageDescription: 80-Pin Thin Quad Flat Pack 0.5 mm Pitch; ComponentLink1Description: Manufacturer Link; ComponentLink1URL: http://www.renesas.com/eng/; ComponentLink2Description: Datasheet; ComponentLink2URL: http://documentation.renesas.com/eng/products/mpumcu/e602144_h8s2138.pdf
footprint TFP-80C_N (Thin QFP, 80-Leads, Body 12x12mm, Pitch 0.5mm, IPC Medium Density)
footprint TFP-80C_L (Thin QFP, 80-Leads, Body 12x12mm, Pitch 0.5mm, IPC High Density)
footprint TFP-80C_M (Thin QFP, 80-Leads, Body 12x12mm, Pitch 0.5mm, IPC Low Density)
3D model HD6432137SW-TFP-80C (80-Pin Thin Quad Flat Pack 0.5 mm Pitch)
pins: 1 ~{RES} (in), 2 XTAL, 3 EXTAL (in), 4 MD1 (in), 5 MD0 (in), 6 NMI (in), 7 ~{STBY} (in), 8 VCL (power), 9 P52/SCK0/SCL0 (io), 10 P51/RxD0 (io), 11 P50/TxD0 (io), 12 VSS (power), 13 P97/~{WAIT}/SDA0 (io), 14 P96/PHI/EXCL (io), 15 P95/~{AS}/~{IOS}/~{CS}1 (io), 16 P94/~{WR}/~{IOW} (io), 17 P93/~{IOR}/~{RD} (io), 18 P92/~{IRQ}0 (io), 19 P91/~{IRQ}1 (io), 20 P90/~{IRQ}2/~{ADTRG}/~{ECS}2 (io), 21 P60/FTCI/CIN0/~{KIN}0/TMIX/HFBACKI (io), 22 P61/FTOA/CIN1/~{KIN}1/VSYNCO (io), 23 P62/FTIA/CIN2/~{KIN}2/TMIY/VSYNCI (io), 24 P63/FTIB/CIN3/~{KIN}3/VFBACKI (io), 25 P64/FTIC/CIN4/~{KIN}4/CLAMPO (io), 26 P65/FTID/CIN5/~{KIN}5 (io), 27 P66/FTOB/CIN6/~{KIN}6/~{IRQ}6 (io), 28 P67/TMOX/CIN7/~{KIN}7/~{IRQ}7 (io), 29 AVCC (power), 30 P70/AN0 (in), 31 P71/AN1 (in), 32 P72/AN2 (in), 33 P73/AN3 (in), 34 P74/AN4 (in), 35 P75/AN5 (in), 36 P76/AN6/DA0 (io), 37 P77/AN7/DA1 (io), 38 AVSS (power), 39 P40/TMCI0/TxD2/IrTxD (io), 40 P41/TMO0/RxD2/IrRxD (io), 41 P42/TMRI0/SCK2/SDA1 (io), 42 P43/TMCI1/HIRQ11/HSYNCI (io), 43 P44/TMO1/HIRQ1/HSYNCO (io), 44 P45/TMRI1/HIRQ12/CSYNCI (io), 45 P46/PWX0 (io), 46 P47/PWX1 (io), 47 VCC1 (power), 48 P27/A15/PW15/CBLANK (io), 49 P26/A14/PW14 (io), 50 P25/A13/PW13 (io), 51 P24/A12/PW12 (io), 52 P23/A11/PW11 (io), 53 P22/A10/PW10 (io), 54 P21/A9/PW9 (io), 55 P20/A8/PW8 (io), 56 VSS (power), 57 P17/A7/PW7 (io), 58 P16/A6/PW6 (io), 59 P15/A5/PW5 (io), 60 P14/A4/PW4 (io), 61 P13/A3/PW3 (io), 62 P12/A2/PW2 (io), 63 P11/A1/PW1 (io), 64 P10/A0/PW0 (io), 65 P30/D0/HDB0 (io), 66 P31/D1/HDB1 (io), 67 P32/D2/HDB2 (io), 68 P33/D3/HDB3 (io), 69 P34/D4/HDB4 (io), 70 P35/D5/HDB5 (io), 71 P36/D6/HDB6 (io), 72 P37/D7/HDB7 (io), 73 VSS (power), 74 P80/HA0 (io), 75 P81/~{CS}2/GA20 (io), 76 P82/HIFSD (io), 77 P83 (io), 78 P84/~{IRQ}3/TxD1 (io), 79 P85/~{IRQ}4/RxD1 (io), 80 P86/~{IRQ}5/SCK1/SCL1 (io)

## HD6432138S3FA
designator U?
16-Bit Single-Chip Microcomputer, H8S/2138, Mask ROM, Standard Product (3V Version).; Note: Do not leave the AVCC, and AVSS pins open even if the A/D converter and D/A converter are not used.; Published: 17-Jul-2002; LatestRevisionDate: 13-Apr-2006; LatestRevisionNote: IPC-7351 Footprint Added.; DatasheetVersion: May-2001; PackageVersion: May-2001; PackageReference: FP-80A; Publisher: Altium Limited; PackageDescription: 80-Pin Quad Flat Pack 0.65 mm Pitch; Code_IPC: QFP65P1720X1720-80; ComponentLink1Description: Manufacturer Link; ComponentLink1URL: http://www.renesas.com/eng/; ComponentLink2Description: Datasheet; ComponentLink2URL: http://documentation.renesas.com/eng/products/mpumcu/e602144_h8s2138.pdf
footprint FP-80A_N (QFP, 80-Leads, Body 14 x 14mm, Pitch 0.65mm, IPC Medium Density)
footprint FP-80A_L (QFP, 80-Leads, Body 14 x 14mm, Pitch 0.65mm, IPC High Density)
footprint FP-80A_M (QFP, 80-Leads, Body 14 x 14mm, Pitch 0.65mm, IPC Low Density)
3D model HD6432138S-FP-80A (80-Pin Quad Flat Pack 0.65 mm Pitch)
pins: 1 ~{RES} (in), 2 XTAL, 3 EXTAL (in), 4 MD1 (in), 5 MD0 (in), 6 NMI (in), 7 ~{STBY} (in), 8 VCL (power), 9 P52/SCK0/SCL0 (io), 10 P51/RxD0 (io), 11 P50/TxD0 (io), 12 VSS (power), 13 P97/~{WAIT}/SDA0 (io), 14 P96/PHI/EXCL (io), 15 P95/~{AS}/~{IOS}/~{CS}1 (io), 16 P94/~{WR}/~{IOW} (io), 17 P93/~{IOR}/~{RD} (io), 18 P92/~{IRQ}0 (io), 19 P91/~{IRQ}1 (io), 20 P90/~{IRQ}2/~{ADTRG}/~{ECS}2 (io), 21 P60/FTCI/CIN0/~{KIN}0/TMIX/HFBACKI (io), 22 P61/FTOA/CIN1/~{KIN}1/VSYNCO (io), 23 P62/FTIA/CIN2/~{KIN}2/TMIY/VSYNCI (io), 24 P63/FTIB/CIN3/~{KIN}3/VFBACKI (io), 25 P64/FTIC/CIN4/~{KIN}4/CLAMPO (io), 26 P65/FTID/CIN5/~{KIN}5 (io), 27 P66/FTOB/CIN6/~{KIN}6/~{IRQ}6 (io), 28 P67/TMOX/CIN7/~{KIN}7/~{IRQ}7 (io), 29 AVCC (power), 30 P70/AN0 (in), 31 P71/AN1 (in), 32 P72/AN2 (in), 33 P73/AN3 (in), 34 P74/AN4 (in), 35 P75/AN5 (in), 36 P76/AN6/DA0 (io), 37 P77/AN7/DA1 (io), 38 AVSS (power), 39 P40/TMCI0/TxD2/IrTxD (io), 40 P41/TMO0/RxD2/IrRxD (io), 41 P42/TMRI0/SCK2/SDA1 (io), 42 P43/TMCI1/HIRQ11/HSYNCI (io), 43 P44/TMO1/HIRQ1/HSYNCO (io), 44 P45/TMRI1/HIRQ12/CSYNCI (io), 45 P46/PWX0 (io), 46 P47/PWX1 (io), 47 VCC1 (power), 48 P27/A15/PW15/CBLANK (io), 49 P26/A14/PW14 (io), 50 P25/A13/PW13 (io), 51 P24/A12/PW12 (io), 52 P23/A11/PW11 (io), 53 P22/A10/PW10 (io), 54 P21/A9/PW9 (io), 55 P20/A8/PW8 (io), 56 VSS (power), 57 P17/A7/PW7 (io), 58 P16/A6/PW6 (io), 59 P15/A5/PW5 (io), 60 P14/A4/PW4 (io), 61 P13/A3/PW3 (io), 62 P12/A2/PW2 (io), 63 P11/A1/PW1 (io), 64 P10/A0/PW0 (io), 65 P30/D0/HDB0 (io), 66 P31/D1/HDB1 (io), 67 P32/D2/HDB2 (io), 68 P33/D3/HDB3 (io), 69 P34/D4/HDB4 (io), 70 P35/D5/HDB5 (io), 71 P36/D6/HDB6 (io), 72 P37/D7/HDB7 (io), 73 VSS (power), 74 P80/HA0 (io), 75 P81/~{CS}2/GA20 (io), 76 P82/HIFSD (io), 77 P83 (io), 78 P84/~{IRQ}3/TxD1 (io), 79 P85/~{IRQ}4/RxD1 (io), 80 P86/~{IRQ}5/SCK1/SCL1 (io)

## HD6432138S3TF
designator U?
16-Bit Single-Chip Microcomputer, H8S/2138, Mask ROM, Standard Product (3V Version).; Note: Do not leave the AVCC, and AVSS pins open even if the A/D converter and D/A converter are not used.; Published: 17-Jul-2002; LatestRevisionDate: 13-Apr-2006; LatestRevisionNote: IPC-7351 Footprint Added.; DatasheetVersion: May-2001; PackageVersion: May-2001; PackageReference: TFP-80C; Publisher: Altium Limited; PackageDescription: 80-Pin Thin Quad Flat Pack 0.5 mm Pitch; ComponentLink1Description: Manufacturer Link; ComponentLink1URL: http://www.renesas.com/eng/; ComponentLink2Description: Datasheet; ComponentLink2URL: http://documentation.renesas.com/eng/products/mpumcu/e602144_h8s2138.pdf
footprint TFP-80C_N (Thin QFP, 80-Leads, Body 12x12mm, Pitch 0.5mm, IPC Medium Density)
footprint TFP-80C_L (Thin QFP, 80-Leads, Body 12x12mm, Pitch 0.5mm, IPC High Density)
footprint TFP-80C_M (Thin QFP, 80-Leads, Body 12x12mm, Pitch 0.5mm, IPC Low Density)
3D model HD6432138S-TFP-80C (80-Pin Thin Quad Flat Pack 0.5 mm Pitch)
pins: 1 ~{RES} (in), 2 XTAL, 3 EXTAL (in), 4 MD1 (in), 5 MD0 (in), 6 NMI (in), 7 ~{STBY} (in), 8 VCL (power), 9 P52/SCK0/SCL0 (io), 10 P51/RxD0 (io), 11 P50/TxD0 (io), 12 VSS (power), 13 P97/~{WAIT}/SDA0 (io), 14 P96/PHI/EXCL (io), 15 P95/~{AS}/~{IOS}/~{CS}1 (io), 16 P94/~{WR}/~{IOW} (io), 17 P93/~{IOR}/~{RD} (io), 18 P92/~{IRQ}0 (io), 19 P91/~{IRQ}1 (io), 20 P90/~{IRQ}2/~{ADTRG}/~{ECS}2 (io), 21 P60/FTCI/CIN0/~{KIN}0/TMIX/HFBACKI (io), 22 P61/FTOA/CIN1/~{KIN}1/VSYNCO (io), 23 P62/FTIA/CIN2/~{KIN}2/TMIY/VSYNCI (io), 24 P63/FTIB/CIN3/~{KIN}3/VFBACKI (io), 25 P64/FTIC/CIN4/~{KIN}4/CLAMPO (io), 26 P65/FTID/CIN5/~{KIN}5 (io), 27 P66/FTOB/CIN6/~{KIN}6/~{IRQ}6 (io), 28 P67/TMOX/CIN7/~{KIN}7/~{IRQ}7 (io), 29 AVCC (power), 30 P70/AN0 (in), 31 P71/AN1 (in), 32 P72/AN2 (in), 33 P73/AN3 (in), 34 P74/AN4 (in), 35 P75/AN5 (in), 36 P76/AN6/DA0 (io), 37 P77/AN7/DA1 (io), 38 AVSS (power), 39 P40/TMCI0/TxD2/IrTxD (io), 40 P41/TMO0/RxD2/IrRxD (io), 41 P42/TMRI0/SCK2/SDA1 (io), 42 P43/TMCI1/HIRQ11/HSYNCI (io), 43 P44/TMO1/HIRQ1/HSYNCO (io), 44 P45/TMRI1/HIRQ12/CSYNCI (io), 45 P46/PWX0 (io), 46 P47/PWX1 (io), 47 VCC1 (power), 48 P27/A15/PW15/CBLANK (io), 49 P26/A14/PW14 (io), 50 P25/A13/PW13 (io), 51 P24/A12/PW12 (io), 52 P23/A11/PW11 (io), 53 P22/A10/PW10 (io), 54 P21/A9/PW9 (io), 55 P20/A8/PW8 (io), 56 VSS (power), 57 P17/A7/PW7 (io), 58 P16/A6/PW6 (io), 59 P15/A5/PW5 (io), 60 P14/A4/PW4 (io), 61 P13/A3/PW3 (io), 62 P12/A2/PW2 (io), 63 P11/A1/PW1 (io), 64 P10/A0/PW0 (io), 65 P30/D0/HDB0 (io), 66 P31/D1/HDB1 (io), 67 P32/D2/HDB2 (io), 68 P33/D3/HDB3 (io), 69 P34/D4/HDB4 (io), 70 P35/D5/HDB5 (io), 71 P36/D6/HDB6 (io), 72 P37/D7/HDB7 (io), 73 VSS (power), 74 P80/HA0 (io), 75 P81/~{CS}2/GA20 (io), 76 P82/HIFSD (io), 77 P83 (io), 78 P84/~{IRQ}3/TxD1 (io), 79 P85/~{IRQ}4/RxD1 (io), 80 P86/~{IRQ}5/SCK1/SCL1 (io)

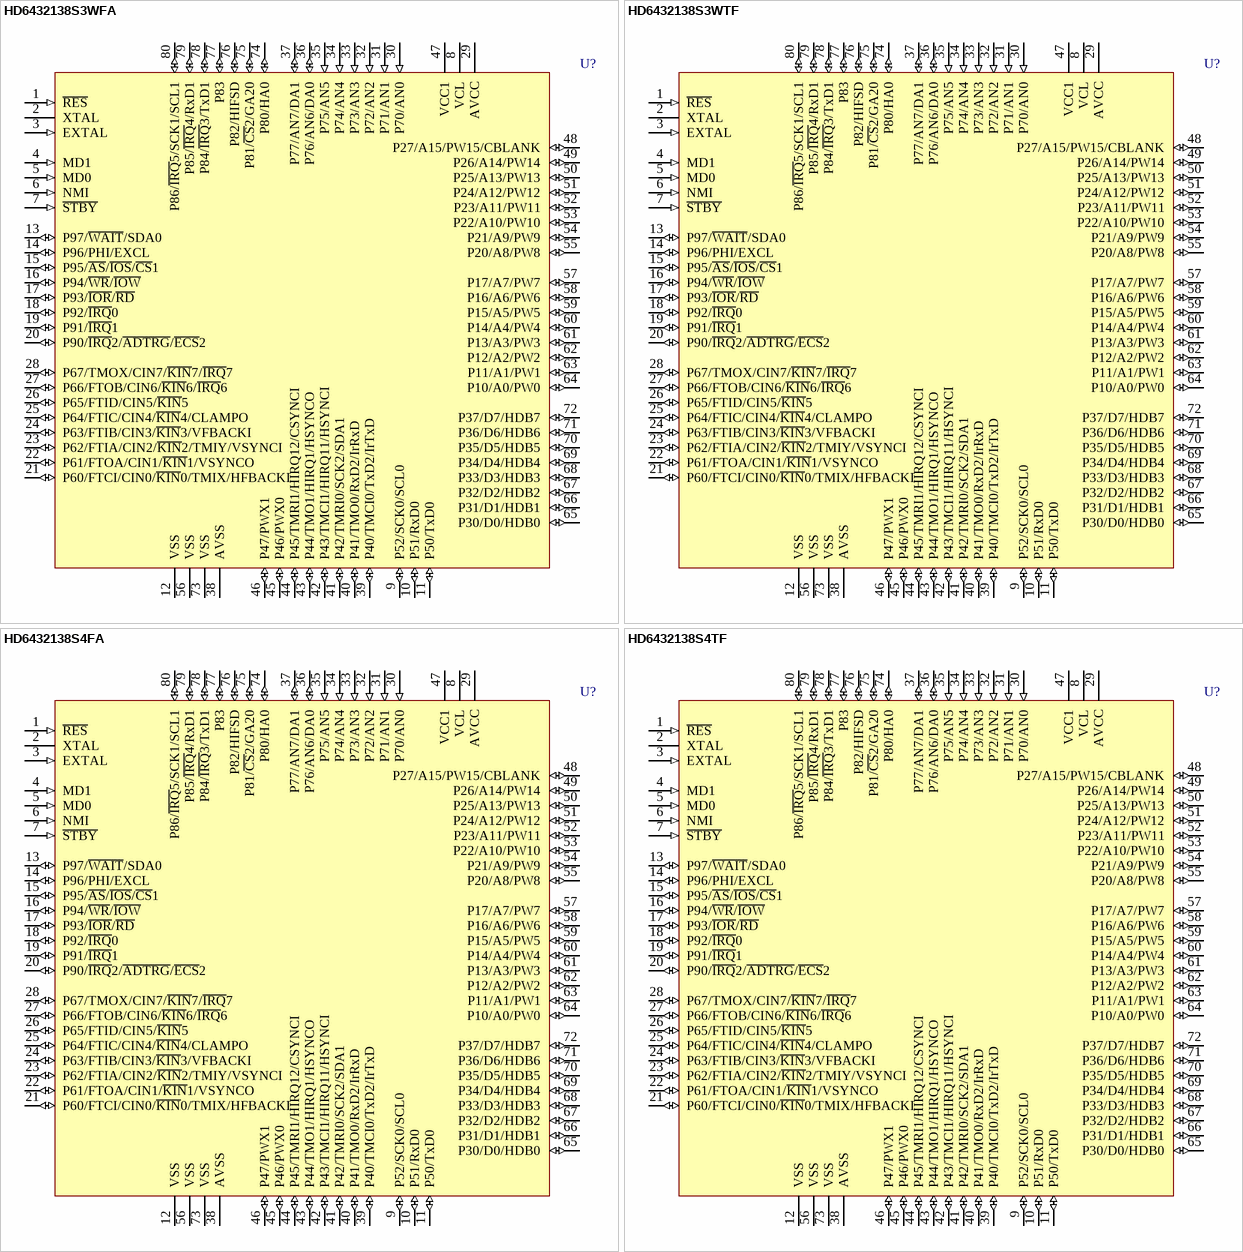
[diagram p12: symbols HD6432138S3WFA to HD6432138S4TF]

## HD6432138S3WFA
designator U?
16-Bit Single-Chip Microcomputer, H8S/2138, Mask ROM, with on-chip IIC Bus Interface (3V Version).; Note: Do not leave the AVCC, and AVSS pins open even if the A/D converter and D/A converter are not used.; Published: 17-Jul-2002; LatestRevisionDate: 13-Apr-2006; LatestRevisionNote: IPC-7351 Footprint Added.; DatasheetVersion: May-2001; PackageVersion: May-2001; PackageReference: FP-80A; Publisher: Altium Limited; PackageDescription: 80-Pin Quad Flat Pack 0.65 mm Pitch; Code_IPC: QFP65P1720X1720-80; ComponentLink1Description: Manufacturer Link; ComponentLink1URL: http://www.renesas.com/eng/; ComponentLink2Description: Datasheet; ComponentLink2URL: http://documentation.renesas.com/eng/products/mpumcu/e602144_h8s2138.pdf
footprint FP-80A_N (QFP, 80-Leads, Body 14 x 14mm, Pitch 0.65mm, IPC Medium Density)
footprint FP-80A_L (QFP, 80-Leads, Body 14 x 14mm, Pitch 0.65mm, IPC High Density)
footprint FP-80A_M (QFP, 80-Leads, Body 14 x 14mm, Pitch 0.65mm, IPC Low Density)
3D model HD6432138SW-FP-80A (80-Pin Quad Flat Pack 0.65 mm Pitch)
pins: 1 ~{RES} (in), 2 XTAL, 3 EXTAL (in), 4 MD1 (in), 5 MD0 (in), 6 NMI (in), 7 ~{STBY} (in), 8 VCL (power), 9 P52/SCK0/SCL0 (io), 10 P51/RxD0 (io), 11 P50/TxD0 (io), 12 VSS (power), 13 P97/~{WAIT}/SDA0 (io), 14 P96/PHI/EXCL (io), 15 P95/~{AS}/~{IOS}/~{CS}1 (io), 16 P94/~{WR}/~{IOW} (io), 17 P93/~{IOR}/~{RD} (io), 18 P92/~{IRQ}0 (io), 19 P91/~{IRQ}1 (io), 20 P90/~{IRQ}2/~{ADTRG}/~{ECS}2 (io), 21 P60/FTCI/CIN0/~{KIN}0/TMIX/HFBACKI (io), 22 P61/FTOA/CIN1/~{KIN}1/VSYNCO (io), 23 P62/FTIA/CIN2/~{KIN}2/TMIY/VSYNCI (io), 24 P63/FTIB/CIN3/~{KIN}3/VFBACKI (io), 25 P64/FTIC/CIN4/~{KIN}4/CLAMPO (io), 26 P65/FTID/CIN5/~{KIN}5 (io), 27 P66/FTOB/CIN6/~{KIN}6/~{IRQ}6 (io), 28 P67/TMOX/CIN7/~{KIN}7/~{IRQ}7 (io), 29 AVCC (power), 30 P70/AN0 (in), 31 P71/AN1 (in), 32 P72/AN2 (in), 33 P73/AN3 (in), 34 P74/AN4 (in), 35 P75/AN5 (in), 36 P76/AN6/DA0 (io), 37 P77/AN7/DA1 (io), 38 AVSS (power), 39 P40/TMCI0/TxD2/IrTxD (io), 40 P41/TMO0/RxD2/IrRxD (io), 41 P42/TMRI0/SCK2/SDA1 (io), 42 P43/TMCI1/HIRQ11/HSYNCI (io), 43 P44/TMO1/HIRQ1/HSYNCO (io), 44 P45/TMRI1/HIRQ12/CSYNCI (io), 45 P46/PWX0 (io), 46 P47/PWX1 (io), 47 VCC1 (power), 48 P27/A15/PW15/CBLANK (io), 49 P26/A14/PW14 (io), 50 P25/A13/PW13 (io), 51 P24/A12/PW12 (io), 52 P23/A11/PW11 (io), 53 P22/A10/PW10 (io), 54 P21/A9/PW9 (io), 55 P20/A8/PW8 (io), 56 VSS (power), 57 P17/A7/PW7 (io), 58 P16/A6/PW6 (io), 59 P15/A5/PW5 (io), 60 P14/A4/PW4 (io), 61 P13/A3/PW3 (io), 62 P12/A2/PW2 (io), 63 P11/A1/PW1 (io), 64 P10/A0/PW0 (io), 65 P30/D0/HDB0 (io), 66 P31/D1/HDB1 (io), 67 P32/D2/HDB2 (io), 68 P33/D3/HDB3 (io), 69 P34/D4/HDB4 (io), 70 P35/D5/HDB5 (io), 71 P36/D6/HDB6 (io), 72 P37/D7/HDB7 (io), 73 VSS (power), 74 P80/HA0 (io), 75 P81/~{CS}2/GA20 (io), 76 P82/HIFSD (io), 77 P83 (io), 78 P84/~{IRQ}3/TxD1 (io), 79 P85/~{IRQ}4/RxD1 (io), 80 P86/~{IRQ}5/SCK1/SCL1 (io)

## HD6432138S3WTF
designator U?
16-Bit Single-Chip Microcomputer, H8S/2138, Mask ROM, with on-chip IIC Bus Interface (3V Version).; Note: Do not leave the AVCC, and AVSS pins open even if the A/D converter and D/A converter are not used.; Published: 17-Jul-2002; LatestRevisionDate: 13-Apr-2006; LatestRevisionNote: IPC-7351 Footprint Added.; DatasheetVersion: May-2001; PackageVersion: May-2001; PackageReference: TFP-80C; Publisher: Altium Limited; PackageDescription: 80-Pin Thin Quad Flat Pack 0.5 mm Pitch; ComponentLink1Description: Manufacturer Link; ComponentLink1URL: http://www.renesas.com/eng/; ComponentLink2Description: Datasheet; ComponentLink2URL: http://documentation.renesas.com/eng/products/mpumcu/e602144_h8s2138.pdf
footprint TFP-80C_N (Thin QFP, 80-Leads, Body 12x12mm, Pitch 0.5mm, IPC Medium Density)
footprint TFP-80C_L (Thin QFP, 80-Leads, Body 12x12mm, Pitch 0.5mm, IPC High Density)
footprint TFP-80C_M (Thin QFP, 80-Leads, Body 12x12mm, Pitch 0.5mm, IPC Low Density)
3D model HD6432138SW-TFP-80C (80-Pin Thin Quad Flat Pack 0.5 mm Pitch)
pins: 1 ~{RES} (in), 2 XTAL, 3 EXTAL (in), 4 MD1 (in), 5 MD0 (in), 6 NMI (in), 7 ~{STBY} (in), 8 VCL (power), 9 P52/SCK0/SCL0 (io), 10 P51/RxD0 (io), 11 P50/TxD0 (io), 12 VSS (power), 13 P97/~{WAIT}/SDA0 (io), 14 P96/PHI/EXCL (io), 15 P95/~{AS}/~{IOS}/~{CS}1 (io), 16 P94/~{WR}/~{IOW} (io), 17 P93/~{IOR}/~{RD} (io), 18 P92/~{IRQ}0 (io), 19 P91/~{IRQ}1 (io), 20 P90/~{IRQ}2/~{ADTRG}/~{ECS}2 (io), 21 P60/FTCI/CIN0/~{KIN}0/TMIX/HFBACKI (io), 22 P61/FTOA/CIN1/~{KIN}1/VSYNCO (io), 23 P62/FTIA/CIN2/~{KIN}2/TMIY/VSYNCI (io), 24 P63/FTIB/CIN3/~{KIN}3/VFBACKI (io), 25 P64/FTIC/CIN4/~{KIN}4/CLAMPO (io), 26 P65/FTID/CIN5/~{KIN}5 (io), 27 P66/FTOB/CIN6/~{KIN}6/~{IRQ}6 (io), 28 P67/TMOX/CIN7/~{KIN}7/~{IRQ}7 (io), 29 AVCC (power), 30 P70/AN0 (in), 31 P71/AN1 (in), 32 P72/AN2 (in), 33 P73/AN3 (in), 34 P74/AN4 (in), 35 P75/AN5 (in), 36 P76/AN6/DA0 (io), 37 P77/AN7/DA1 (io), 38 AVSS (power), 39 P40/TMCI0/TxD2/IrTxD (io), 40 P41/TMO0/RxD2/IrRxD (io), 41 P42/TMRI0/SCK2/SDA1 (io), 42 P43/TMCI1/HIRQ11/HSYNCI (io), 43 P44/TMO1/HIRQ1/HSYNCO (io), 44 P45/TMRI1/HIRQ12/CSYNCI (io), 45 P46/PWX0 (io), 46 P47/PWX1 (io), 47 VCC1 (power), 48 P27/A15/PW15/CBLANK (io), 49 P26/A14/PW14 (io), 50 P25/A13/PW13 (io), 51 P24/A12/PW12 (io), 52 P23/A11/PW11 (io), 53 P22/A10/PW10 (io), 54 P21/A9/PW9 (io), 55 P20/A8/PW8 (io), 56 VSS (power), 57 P17/A7/PW7 (io), 58 P16/A6/PW6 (io), 59 P15/A5/PW5 (io), 60 P14/A4/PW4 (io), 61 P13/A3/PW3 (io), 62 P12/A2/PW2 (io), 63 P11/A1/PW1 (io), 64 P10/A0/PW0 (io), 65 P30/D0/HDB0 (io), 66 P31/D1/HDB1 (io), 67 P32/D2/HDB2 (io), 68 P33/D3/HDB3 (io), 69 P34/D4/HDB4 (io), 70 P35/D5/HDB5 (io), 71 P36/D6/HDB6 (io), 72 P37/D7/HDB7 (io), 73 VSS (power), 74 P80/HA0 (io), 75 P81/~{CS}2/GA20 (io), 76 P82/HIFSD (io), 77 P83 (io), 78 P84/~{IRQ}3/TxD1 (io), 79 P85/~{IRQ}4/RxD1 (io), 80 P86/~{IRQ}5/SCK1/SCL1 (io)

## HD6432138S4FA
designator U?
16-Bit Single-Chip Microcomputer, H8S/2138, Mask ROM, Standard Product (4V Version).; Note: Do not leave the AVCC, and AVSS pins open even if the A/D converter and D/A converter are not used.; Note: Never apply power supply voltage to the VCL pin in the 5-V or 4-V version.; Published: 17-Jul-2002; LatestRevisionDate: 13-Apr-2006; LatestRevisionNote: IPC-7351 Footprint Added.; DatasheetVersion: May-2001; PackageVersion: May-2001; PackageReference: FP-80A; Publisher: Altium Limited; PackageDescription: 80-Pin Quad Flat Pack 0.65 mm Pitch; Code_IPC: QFP65P1720X1720-80; ComponentLink1Description: Manufacturer Link; ComponentLink1URL: http://www.renesas.com/eng/; ComponentLink2Description: Datasheet; ComponentLink2URL: http://documentation.renesas.com/eng/products/mpumcu/e602144_h8s2138.pdf
footprint FP-80A_N (QFP, 80-Leads, Body 14 x 14mm, Pitch 0.65mm, IPC Medium Density)
footprint FP-80A_L (QFP, 80-Leads, Body 14 x 14mm, Pitch 0.65mm, IPC High Density)
footprint FP-80A_M (QFP, 80-Leads, Body 14 x 14mm, Pitch 0.65mm, IPC Low Density)
3D model HD6432138S-FP-80A (80-Pin Quad Flat Pack 0.65 mm Pitch)
pins: 1 ~{RES} (in), 2 XTAL, 3 EXTAL (in), 4 MD1 (in), 5 MD0 (in), 6 NMI (in), 7 ~{STBY} (in), 8 VCL (power), 9 P52/SCK0/SCL0 (io), 10 P51/RxD0 (io), 11 P50/TxD0 (io), 12 VSS (power), 13 P97/~{WAIT}/SDA0 (io), 14 P96/PHI/EXCL (io), 15 P95/~{AS}/~{IOS}/~{CS}1 (io), 16 P94/~{WR}/~{IOW} (io), 17 P93/~{IOR}/~{RD} (io), 18 P92/~{IRQ}0 (io), 19 P91/~{IRQ}1 (io), 20 P90/~{IRQ}2/~{ADTRG}/~{ECS}2 (io), 21 P60/FTCI/CIN0/~{KIN}0/TMIX/HFBACKI (io), 22 P61/FTOA/CIN1/~{KIN}1/VSYNCO (io), 23 P62/FTIA/CIN2/~{KIN}2/TMIY/VSYNCI (io), 24 P63/FTIB/CIN3/~{KIN}3/VFBACKI (io), 25 P64/FTIC/CIN4/~{KIN}4/CLAMPO (io), 26 P65/FTID/CIN5/~{KIN}5 (io), 27 P66/FTOB/CIN6/~{KIN}6/~{IRQ}6 (io), 28 P67/TMOX/CIN7/~{KIN}7/~{IRQ}7 (io), 29 AVCC (power), 30 P70/AN0 (in), 31 P71/AN1 (in), 32 P72/AN2 (in), 33 P73/AN3 (in), 34 P74/AN4 (in), 35 P75/AN5 (in), 36 P76/AN6/DA0 (io), 37 P77/AN7/DA1 (io), 38 AVSS (power), 39 P40/TMCI0/TxD2/IrTxD (io), 40 P41/TMO0/RxD2/IrRxD (io), 41 P42/TMRI0/SCK2/SDA1 (io), 42 P43/TMCI1/HIRQ11/HSYNCI (io), 43 P44/TMO1/HIRQ1/HSYNCO (io), 44 P45/TMRI1/HIRQ12/CSYNCI (io), 45 P46/PWX0 (io), 46 P47/PWX1 (io), 47 VCC1 (power), 48 P27/A15/PW15/CBLANK (io), 49 P26/A14/PW14 (io), 50 P25/A13/PW13 (io), 51 P24/A12/PW12 (io), 52 P23/A11/PW11 (io), 53 P22/A10/PW10 (io), 54 P21/A9/PW9 (io), 55 P20/A8/PW8 (io), 56 VSS (power), 57 P17/A7/PW7 (io), 58 P16/A6/PW6 (io), 59 P15/A5/PW5 (io), 60 P14/A4/PW4 (io), 61 P13/A3/PW3 (io), 62 P12/A2/PW2 (io), 63 P11/A1/PW1 (io), 64 P10/A0/PW0 (io), 65 P30/D0/HDB0 (io), 66 P31/D1/HDB1 (io), 67 P32/D2/HDB2 (io), 68 P33/D3/HDB3 (io), 69 P34/D4/HDB4 (io), 70 P35/D5/HDB5 (io), 71 P36/D6/HDB6 (io), 72 P37/D7/HDB7 (io), 73 VSS (power), 74 P80/HA0 (io), 75 P81/~{CS}2/GA20 (io), 76 P82/HIFSD (io), 77 P83 (io), 78 P84/~{IRQ}3/TxD1 (io), 79 P85/~{IRQ}4/RxD1 (io), 80 P86/~{IRQ}5/SCK1/SCL1 (io)

## HD6432138S4TF
designator U?
16-Bit Single-Chip Microcomputer, H8S/2138, Mask ROM, Standard Product (4V Version).; Note: Do not leave the AVCC, and AVSS pins open even if the A/D converter and D/A converter are not used.; Note: Never apply power supply voltage to the VCL pin in the 5-V or 4-V version.; Published: 17-Jul-2002; LatestRevisionDate: 13-Apr-2006; LatestRevisionNote: IPC-7351 Footprint Added.; DatasheetVersion: May-2001; PackageVersion: May-2001; PackageReference: TFP-80C; Publisher: Altium Limited; PackageDescription: 80-Pin Thin Quad Flat Pack 0.5 mm Pitch; ComponentLink1Description: Manufacturer Link; ComponentLink1URL: http://www.renesas.com/eng/; ComponentLink2Description: Datasheet; ComponentLink2URL: http://documentation.renesas.com/eng/products/mpumcu/e602144_h8s2138.pdf
footprint TFP-80C_N (Thin QFP, 80-Leads, Body 12x12mm, Pitch 0.5mm, IPC Medium Density)
footprint TFP-80C_L (Thin QFP, 80-Leads, Body 12x12mm, Pitch 0.5mm, IPC High Density)
footprint TFP-80C_M (Thin QFP, 80-Leads, Body 12x12mm, Pitch 0.5mm, IPC Low Density)
3D model HD6432138S-TFP-80C (80-Pin Thin Quad Flat Pack 0.5 mm Pitch)
pins: 1 ~{RES} (in), 2 XTAL, 3 EXTAL (in), 4 MD1 (in), 5 MD0 (in), 6 NMI (in), 7 ~{STBY} (in), 8 VCL (power), 9 P52/SCK0/SCL0 (io), 10 P51/RxD0 (io), 11 P50/TxD0 (io), 12 VSS (power), 13 P97/~{WAIT}/SDA0 (io), 14 P96/PHI/EXCL (io), 15 P95/~{AS}/~{IOS}/~{CS}1 (io), 16 P94/~{WR}/~{IOW} (io), 17 P93/~{IOR}/~{RD} (io), 18 P92/~{IRQ}0 (io), 19 P91/~{IRQ}1 (io), 20 P90/~{IRQ}2/~{ADTRG}/~{ECS}2 (io), 21 P60/FTCI/CIN0/~{KIN}0/TMIX/HFBACKI (io), 22 P61/FTOA/CIN1/~{KIN}1/VSYNCO (io), 23 P62/FTIA/CIN2/~{KIN}2/TMIY/VSYNCI (io), 24 P63/FTIB/CIN3/~{KIN}3/VFBACKI (io), 25 P64/FTIC/CIN4/~{KIN}4/CLAMPO (io), 26 P65/FTID/CIN5/~{KIN}5 (io), 27 P66/FTOB/CIN6/~{KIN}6/~{IRQ}6 (io), 28 P67/TMOX/CIN7/~{KIN}7/~{IRQ}7 (io), 29 AVCC (power), 30 P70/AN0 (in), 31 P71/AN1 (in), 32 P72/AN2 (in), 33 P73/AN3 (in), 34 P74/AN4 (in), 35 P75/AN5 (in), 36 P76/AN6/DA0 (io), 37 P77/AN7/DA1 (io), 38 AVSS (power), 39 P40/TMCI0/TxD2/IrTxD (io), 40 P41/TMO0/RxD2/IrRxD (io), 41 P42/TMRI0/SCK2/SDA1 (io), 42 P43/TMCI1/HIRQ11/HSYNCI (io), 43 P44/TMO1/HIRQ1/HSYNCO (io), 44 P45/TMRI1/HIRQ12/CSYNCI (io), 45 P46/PWX0 (io), 46 P47/PWX1 (io), 47 VCC1 (power), 48 P27/A15/PW15/CBLANK (io), 49 P26/A14/PW14 (io), 50 P25/A13/PW13 (io), 51 P24/A12/PW12 (io), 52 P23/A11/PW11 (io), 53 P22/A10/PW10 (io), 54 P21/A9/PW9 (io), 55 P20/A8/PW8 (io), 56 VSS (power), 57 P17/A7/PW7 (io), 58 P16/A6/PW6 (io), 59 P15/A5/PW5 (io), 60 P14/A4/PW4 (io), 61 P13/A3/PW3 (io), 62 P12/A2/PW2 (io), 63 P11/A1/PW1 (io), 64 P10/A0/PW0 (io), 65 P30/D0/HDB0 (io), 66 P31/D1/HDB1 (io), 67 P32/D2/HDB2 (io), 68 P33/D3/HDB3 (io), 69 P34/D4/HDB4 (io), 70 P35/D5/HDB5 (io), 71 P36/D6/HDB6 (io), 72 P37/D7/HDB7 (io), 73 VSS (power), 74 P80/HA0 (io), 75 P81/~{CS}2/GA20 (io), 76 P82/HIFSD (io), 77 P83 (io), 78 P84/~{IRQ}3/TxD1 (io), 79 P85/~{IRQ}4/RxD1 (io), 80 P86/~{IRQ}5/SCK1/SCL1 (io)

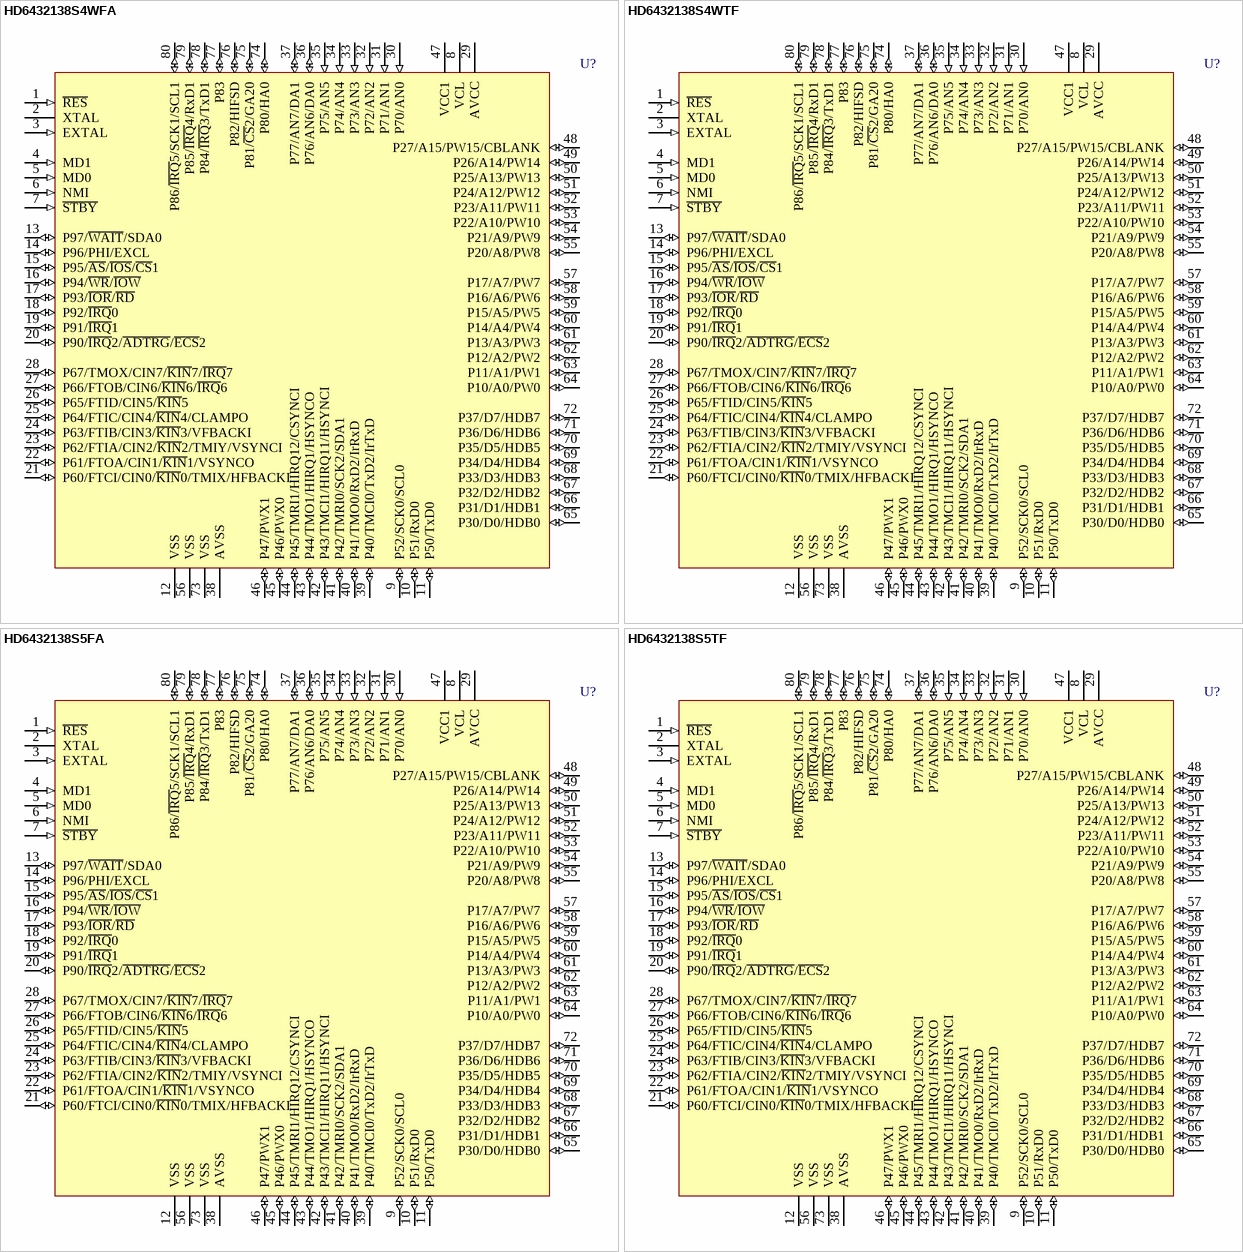
[diagram p13: symbols HD6432138S4WFA to HD6432138S5TF]